# Altium integrated library Cypress PLD Delta39K.IntLib: 82 symbols (part 7 of 21)
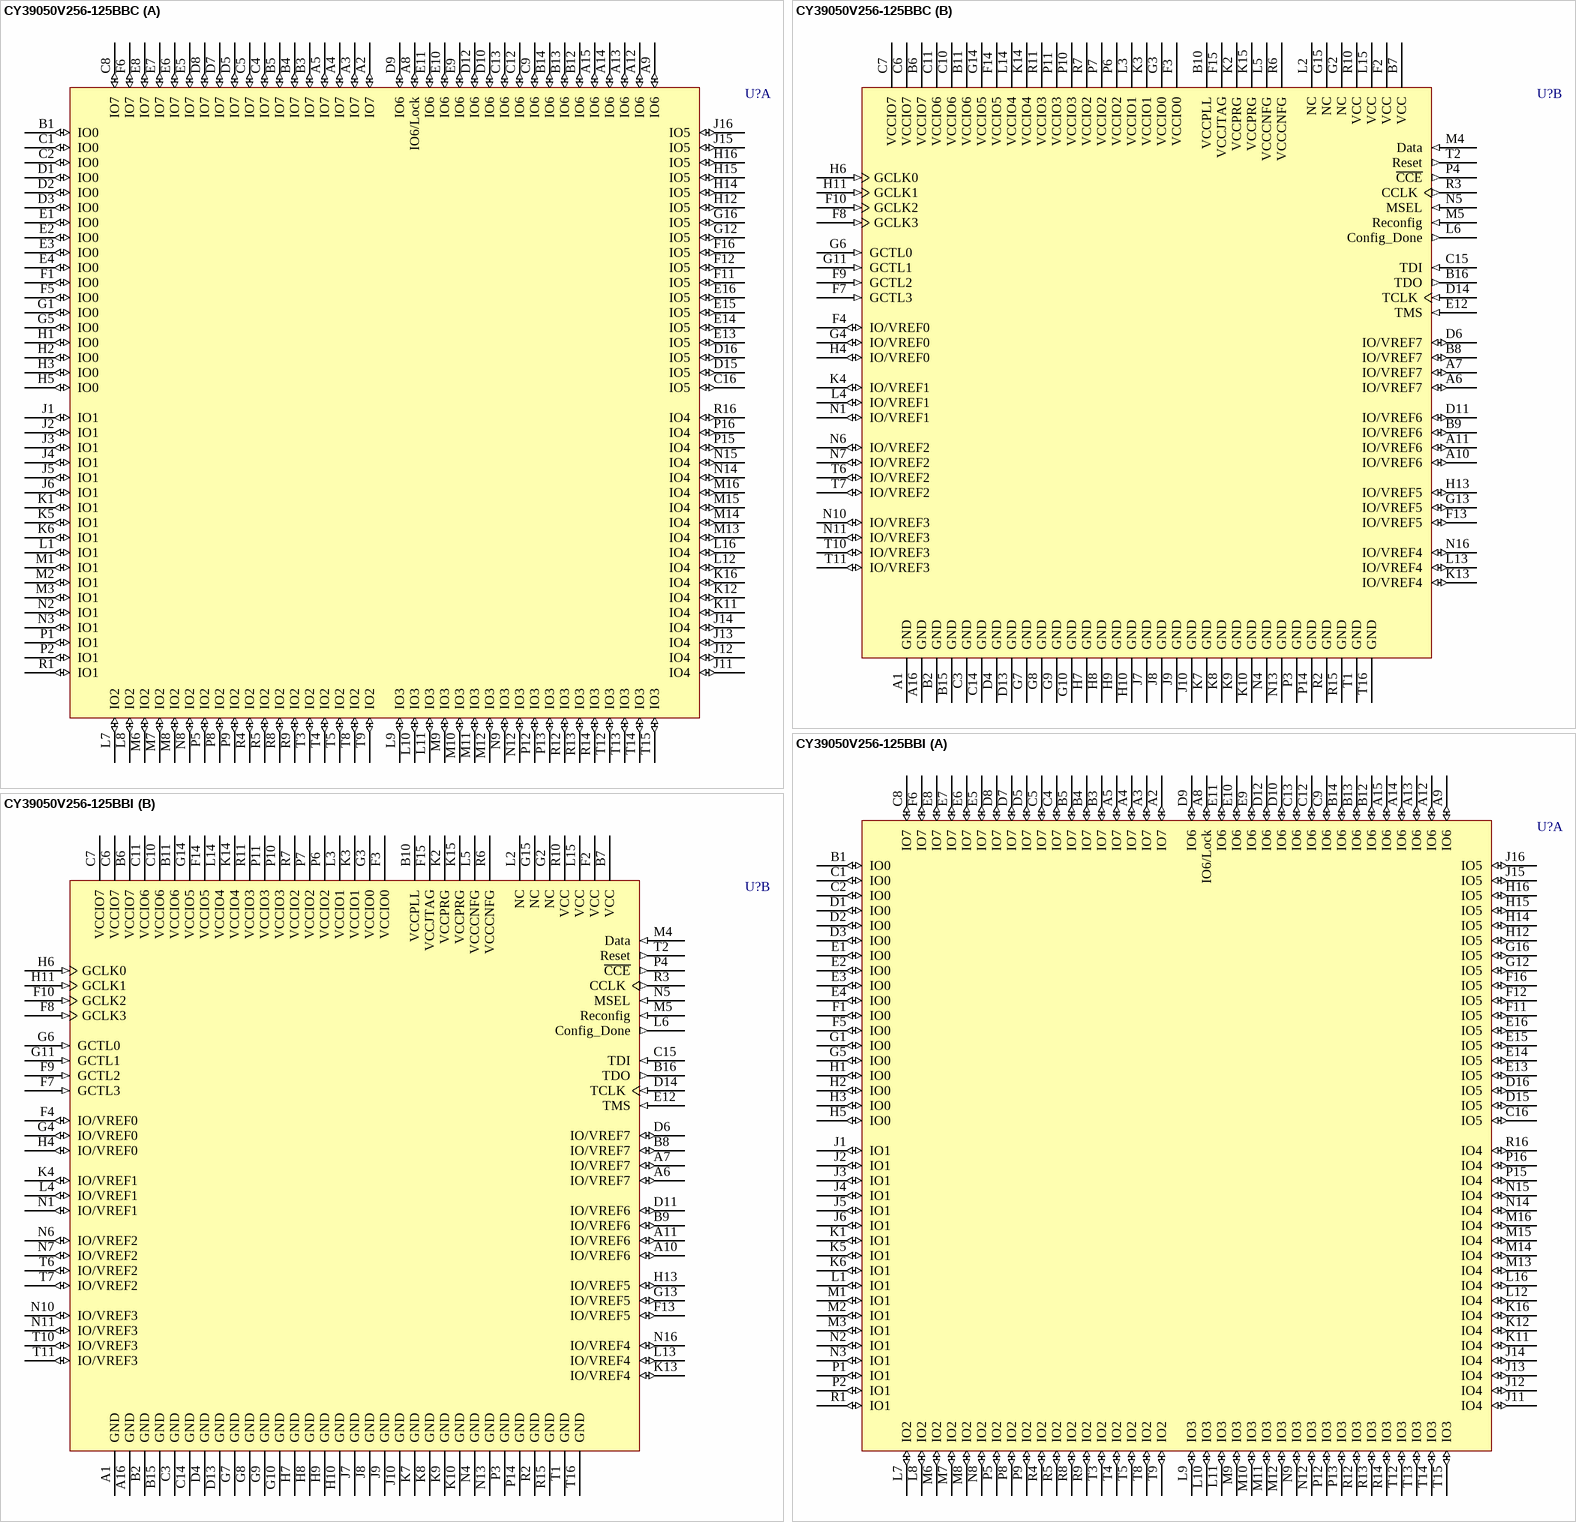
[diagram p84: symbols CY39050V256-125BBC to CY39050V256-125BBI]

## CY39050V256-125BBC
designator U?
Delta39K ISR CPLD, 3.3V/2.5V, 50K Gates, 125 MHz, 256-Ball FBGA, Commercial Grade; Published: 11-Dec-2002; LatestRevisionDate: 13-Apr-2006; LatestRevisionNote: IPC-7351 Footprint Added.; DatasheetVersion: revI, Mar-2005; PackageVersion: revF, Oct-2003; PackageReference: BB256; Publisher: Altium Limited; PackageDescription: 256-Ball Fine Pitch Ball Grid Array 1 mm Pitch (37K & 39K CPLD Devices); Code_JEDEC: MO-192; ComponentLink1Description: Manufacturer Link; ComponentLink1URL: http://www.cypress.com/; ComponentLink2Description: Datasheet; ComponentLink2URL: http://www.cypress.com/portal/server.pt/gateway/PTARGS_0_601270_1522_209_0_43/http%3B/sjapp20.mis.cypress.com%3B7001/publishedcontent/publish/design_resources/datasheets/contents/cy39030v_5.pdf
footprint BB256 (BGA, 256-Leads, Body 17x17mm, Pitch 1mm)
3D model CY39050V256-BB256 (256-Ball Fine Pitch Ball Grid Array 1 mm Pitch (37K & 39K CPLD Devices))
part A pins: A2 IO7 (io) "IO for Bank 7", A3 IO7 (io) "IO for Bank 7", A4 IO7 (io) "IO for Bank 7", A5 IO7 (io) "IO for Bank 7", A8 IO6/Lock (io) "IO in Bank 6 or PLL lock output signal", A9 IO6 (io) "IO for Bank 6", A12 IO6 (io) "IO for Bank 6", A13 IO6 (io) "IO for Bank 6", A14 IO6 (io) "IO for Bank 6", A15 IO6 (io) "IO for Bank 6", B1 IO0 (io) "IO for Bank 0", B3 IO7 (io) "IO for Bank 7", B4 IO7 (io) "IO for Bank 7", B5 IO7 (io) "IO for Bank 7", B12 IO6 (io) "IO for Bank 6", B13 IO6 (io) "IO for Bank 6", B14 IO6 (io) "IO for Bank 6", C1 IO0 (io) "IO for Bank 0", C2 IO0 (io) "IO for Bank 0", C4 IO7 (io) "IO for Bank 7", C5 IO7 (io) "IO for Bank 7", C8 IO7 (io) "IO for Bank 7", C9 IO6 (io) "IO for Bank 6", C12 IO6 (io) "IO for Bank 6", C13 IO6 (io) "IO for Bank 6", C16 IO5 (io) "IO for Bank 5", D1 IO0 (io) "IO for Bank 0", D2 IO0 (io) "IO for Bank 0", D3 IO0 (io) "IO for Bank 0", D5 IO7 (io) "IO for Bank 7", D7 IO7 (io) "IO for Bank 7", D8 IO7 (io) "IO for Bank 7", D9 IO6 (io) "IO for Bank 6", D10 IO6 (io) "IO for Bank 6", D12 IO6 (io) "IO for Bank 6", D15 IO5 (io) "IO for Bank 5", D16 IO5 (io) "IO for Bank 5", E1 IO0 (io) "IO for Bank 0", E2 IO0 (io) "IO for Bank 0", E3 IO0 (io) "IO for Bank 0", E4 IO0 (io) "IO for Bank 0", E5 IO7 (io) "IO for Bank 7", E6 IO7 (io) "IO for Bank 7", E7 IO7 (io) "IO for Bank 7", E8 IO7 (io) "IO for Bank 7", E9 IO6 (io) "IO for Bank 6", E10 IO6 (io) "IO for Bank 6", E11 IO6 (io) "IO for Bank 6", E13 IO5 (io) "IO for Bank 5", E14 IO5 (io) "IO for Bank 5", E15 IO5 (io) "IO for Bank 5", E16 IO5 (io) "IO for Bank 5", F1 IO0 (io) "IO for Bank 0", F5 IO0 (io) "IO for Bank 0", F6 IO7 (io) "IO for Bank 7", F11 IO5 (io) "IO for Bank 5", F12 IO5 (io) "IO for Bank 5", F16 IO5 (io) "IO for Bank 5", G1 IO0 (io) "IO for Bank 0", G5 IO0 (io) "IO for Bank 0", G12 IO5 (io) "IO for Bank 5", G16 IO5 (io) "IO for Bank 5", H1 IO0 (io) "IO for Bank 0", H2 IO0 (io) "IO for Bank 0", H3 IO0 (io) "IO for Bank 0", H5 IO0 (io) "IO for Bank 0", H12 IO5 (io) "IO for Bank 5", H14 IO5 (io) "IO for Bank 5", H15 IO5 (io) "IO for Bank 5", H16 IO5 (io) "IO for Bank 5", J1 IO1 (io) "IO for Bank 1", J2 IO1 (io) "IO for Bank 1", J3 IO1 (io) "IO for Bank 1", J4 IO1 (io) "IO for Bank 1", J5 IO1 (io) "IO for Bank 1", J6 IO1 (io) "IO for Bank 1", J11 IO4 (io) "IO for Bank 4", J12 IO4 (io) "IO for Bank 4", J13 IO4 (io) "IO for Bank 4", J14 IO4 (io) "IO for Bank 4", J15 IO5 (io) "IO for Bank 5", J16 IO5 (io) "IO for Bank 5", K1 IO1 (io) "IO for Bank 1", K5 IO1 (io) "IO for Bank 1", K6 IO1 (io) "IO for Bank 1", K11 IO4 (io) "IO for Bank 4", K12 IO4 (io) "IO for Bank 4", K16 IO4 (io) "IO for Bank 4", L1 IO1 (io) "IO for Bank 1", L7 IO2 (io) "IO for Bank 2", L8 IO2 (io) "IO for Bank 2", L9 IO3 (io) "IO for Bank 3", L10 IO3 (io) "IO for Bank 3", L11 IO3 (io) "IO for Bank 3", L12 IO4 (io) "IO for Bank 4", L16 IO4 (io) "IO for Bank 4", M1 IO1 (io) "IO for Bank 1", M2 IO1 (io) "IO for Bank 1", M3 IO1 (io) "IO for Bank 1", M6 IO2 (io) "IO for Bank 2", M7 IO2 (io) "IO for Bank 2", M8 IO2 (io) "IO for Bank 2", M9 IO3 (io) "IO for Bank 3", M10 IO3 (io) "IO for Bank 3", M11 IO3 (io) "IO for Bank 3", M12 IO3 (io) "IO for Bank 3", M13 IO4 (io) "IO for Bank 4", M14 IO4 (io) "IO for Bank 4", M15 IO4 (io) "IO for Bank 4", M16 IO4 (io) "IO for Bank 4", N2 IO1 (io) "IO for Bank 1", N3 IO1 (io) "IO for Bank 1", N8 IO2 (io) "IO for Bank 2", N9 IO3 (io) "IO for Bank 3", N12 IO3 (io) "IO for Bank 3", N14 IO4 (io) "IO for Bank 4", N15 IO4 (io) "IO for Bank 4", P1 IO1 (io) "IO for Bank 1", P2 IO1 (io) "IO for Bank 1", P5 IO2 (io) "IO for Bank 2", P8 IO2 (io) "IO for Bank 2", P9 IO2 (io) "IO for Bank 2", P12 IO3 (io) "IO for Bank 3", P13 IO3 (io) "IO for Bank 3", P15 IO4 (io) "IO for Bank 4", P16 IO4 (io) "IO for Bank 4", R1 IO1 (io) "IO for Bank 1", R4 IO2 (io) "IO for Bank 2", R5 IO2 (io) "IO for Bank 2", R8 IO2 (io) "IO for Bank 2", R9 IO2 (io) "IO for Bank 2", R12 IO3 (io) "IO for Bank 3", R13 IO3 (io) "IO for Bank 3", R14 IO3 (io) "IO for Bank 3", R16 IO4 (io) "IO for Bank 4", T3 IO2 (io) "IO for Bank 2", T4 IO2 (io) "IO for Bank 2", T5 IO2 (io) "IO for Bank 2", T8 IO2 (io) "IO for Bank 2", T9 IO2 (io) "IO for Bank 2", T12 IO3 (io) "IO for Bank 3", T13 IO3 (io) "IO for Bank 3", T14 IO3 (io) "IO for Bank 3", T15 IO3 (io) "IO for Bank 3"
part B pins: A1 GND (power) "Ground", A6 IO/VREF7 (io) "IO or Reference Voltage for Bank 7", A7 IO/VREF7 (io) "IO or Reference Voltage for Bank 7", A10 IO/VREF6 (io) "IO or Reference Voltage for Bank 6", A11 IO/VREF6 (io) "IO or Reference Voltage for Bank 6", A16 GND (power) "Ground", B2 GND (power) "Ground", B6 VCCIO7 (power) "VCC for I/O bank 7", B7 VCC (power) "Operating Voltage", B8 IO/VREF7 (io) "IO or Reference Voltage for Bank 7", B9 IO/VREF6 (io) "IO or Reference Voltage for Bank 6", B10 VCCPLL (power) "VCC for PLL", B11 VCCIO6 (power) "VCC for I/O bank 6", B15 GND (power) "Ground", B16 TDO (out) "JTAG Test Data Out", C3 GND (power) "Ground", C6 VCCIO7 (power) "VCC for I/O bank 7", C7 VCCIO7 (power) "VCC for I/O bank 7", C10 VCCIO6 (power) "VCC for I/O bank 6", C11 VCCIO6 (power) "VCC for I/O bank 6", C14 GND (power) "Ground", C15 TDI (in) "JTAG Test Data In", D4 GND (power) "Ground", D6 IO/VREF7 (io) "IO or Reference Voltage for Bank 7", D11 IO/VREF6 (io) "IO or Reference Voltage for Bank 6", D13 GND (power) "Ground", D14 TCLK (in) "JTAG Test Clock", E12 TMS (in) "JTAG Test Mode Select", F2 VCC (power) "Operating Voltage", F3 VCCIO0 (power) "VCC for I/O bank 0", F4 IO/VREF0 (io) "IO or Reference Voltage for Bank 0", F7 GCTL3 (in) "Global Control signal 3", F8 GCLK3 (in) "Global Clock signal 3", F9 GCTL2 (in) "Global Control signal 2", F10 GCLK2 (in) "Global Clock signal 2", F13 IO/VREF5 (io) "IO or Reference Voltage for Bank 5", F14 VCCIO5 (power) "VCC for I/O bank 5", F15 VCCJTAG (power) "VCC for JTAG pins", G2 NC "No Connection", G3 VCCIO0 (power) "VCC for I/O bank 0", G4 IO/VREF0 (io) "IO or Reference Voltage for Bank 0", G6 GCTL0 (in) "Global Control signal 0", G7 GND (power) "Ground", G8 GND (power) "Ground", G9 GND (power) "Ground", G10 GND (power) "Ground", G11 GCTL1 (in) "Global Control signal 1", G13 IO/VREF5 (io) "IO or Reference Voltage for Bank 5", G14 VCCIO5 (power) "VCC for I/O bank 5", G15 NC "No Connection", H4 IO/VREF0 (io) "IO or Reference Voltage for Bank 0", H6 GCLK0 (in) "Global Clock signal 0", H7 GND (power) "Ground", H8 GND (power) "Ground", H9 GND (power) "Ground", H10 GND (power) "Ground", H11 GCLK1 (in) "Global Clock signal 1", H13 IO/VREF5 (io) "IO or Reference Voltage for Bank 5", J7 GND (power) "Ground", J8 GND (power) "Ground", J9 GND (power) "Ground", J10 GND (power) "Ground", K2 VCCPRG (power) "VCC for programming Self-Boot solution embedded boot PROM", K3 VCCIO1 (power) "VCC for I/O bank 1", K4 IO/VREF1 (io) "IO or Reference Voltage for Bank 1", K7 GND (power) "Ground", K8 GND (power) "Ground", K9 GND (power) "Ground", K10 GND (power) "Ground", K13 IO/VREF4 (io) "IO or Reference Voltage for Bank 4", K14 VCCIO4 (power) "VCC for I/O bank 4", K15 VCCPRG (power) "VCC for programming Self-Boot solution embedded boot PROM", L2 NC "No Connection", L3 VCCIO1 (power) "VCC for I/O bank 1", L4 IO/VREF1 (io) "IO or Reference Voltage for Bank 1", L5 VCCCNFG (power) "VCC for Configuration port", L6 Config_Done (out) "Flag indicating that configuration is complete", L13 IO/VREF4 (io) "IO or Reference Voltage for Bank 4", L14 VCCIO4 (power) "VCC for I/O bank 4", L15 VCC (power) "Operating Voltage", M4 Data (in) "Pin to receive configuration data from the external boot PROM", M5 Reconfig (in) "Pin to start configuration of Delta39K", N1 IO/VREF1 (io) "IO or Reference Voltage for Bank 1", N4 GND (power) "Ground", N5 MSEL (in) "Mode Select Pin", N6 IO/VREF2 (io) "IO or Reference Voltage for Bank 2", N7 IO/VREF2 (io) "IO or Reference Voltage for Bank 2", N10 IO/VREF3 (io) "IO or Reference Voltage for Bank 3", N11 IO/VREF3 (io) "IO or Reference Voltage for Bank 3", N13 GND (power) "Ground", N16 IO/VREF4 (io) "IO or Reference Voltage for Bank 4", P3 GND (power) "Ground", P4 ~{CCE} (out) "Chip select for the external boot PROM (active low)", P6 VCCIO2 (power) "VCC for I/O bank 2", P7 VCCIO2 (power) "VCC for I/O bank 2", P10 VCCIO3 (power) "VCC for I/O bank 3", P11 VCCIO3 (power) "VCC for I/O bank 3", P14 GND (power) "Ground", R2 GND (power) "Ground", R3 CCLK (out) "Configuration Clock for serial interface with the external boot PROM", R6 VCCCNFG (power) "VCC for Configuration port", R7 VCCIO2 (power) "VCC for I/O bank 2", R10 VCC (power) "Operating Voltage", R11 VCCIO3 (power) "VCC for I/O bank 3", R15 GND (power) "Ground", T1 GND (power) "Ground", T2 Reset (out) "Reset signal to interface with the external boot PROM", T6 IO/VREF2 (io) "IO or Reference Voltage for Bank 2", T7 IO/VREF2 (io) "IO or Reference Voltage for Bank 2", T10 IO/VREF3 (io) "IO or Reference Voltage for Bank 3", T11 IO/VREF3 (io) "IO or Reference Voltage for Bank 3", T16 GND (power) "Ground"

## CY39050V256-125BBI
designator U?
Delta39K ISR CPLD, 3.3V/2.5V, 50K Gates, 125 MHz, 256-Ball FBGA, Industrial Grade; ComponentAvailability: Obsolete; Published: 11-Dec-2002; LatestRevisionDate: 13-Apr-2006; LatestRevisionNote: IPC-7351 Footprint Added.; DatasheetVersion: revI, Mar-2005; PackageVersion: revF, Oct-2003; PackageReference: BB256; Publisher: Altium Limited; PackageDescription: 256-Ball Fine Pitch Ball Grid Array 1 mm Pitch (37K & 39K CPLD Devices); Code_JEDEC: MO-192; ComponentLink1Description: Manufacturer Link; ComponentLink1URL: http://www.cypress.com/; ComponentLink2Description: Datasheet; ComponentLink2URL: http://www.cypress.com/portal/server.pt/gateway/PTARGS_0_601270_1522_209_0_43/http%3B/sjapp20.mis.cypress.com%3B7001/publishedcontent/publish/design_resources/datasheets/contents/cy39030v_5.pdf
footprint BB256 (BGA, 256-Leads, Body 17x17mm, Pitch 1mm)
3D model CY39050V256-BB256 (256-Ball Fine Pitch Ball Grid Array 1 mm Pitch (37K & 39K CPLD Devices))
part A pins: A2 IO7 (io) "IO for Bank 7", A3 IO7 (io) "IO for Bank 7", A4 IO7 (io) "IO for Bank 7", A5 IO7 (io) "IO for Bank 7", A8 IO6/Lock (io) "IO in Bank 6 or PLL lock output signal", A9 IO6 (io) "IO for Bank 6", A12 IO6 (io) "IO for Bank 6", A13 IO6 (io) "IO for Bank 6", A14 IO6 (io) "IO for Bank 6", A15 IO6 (io) "IO for Bank 6", B1 IO0 (io) "IO for Bank 0", B3 IO7 (io) "IO for Bank 7", B4 IO7 (io) "IO for Bank 7", B5 IO7 (io) "IO for Bank 7", B12 IO6 (io) "IO for Bank 6", B13 IO6 (io) "IO for Bank 6", B14 IO6 (io) "IO for Bank 6", C1 IO0 (io) "IO for Bank 0", C2 IO0 (io) "IO for Bank 0", C4 IO7 (io) "IO for Bank 7", C5 IO7 (io) "IO for Bank 7", C8 IO7 (io) "IO for Bank 7", C9 IO6 (io) "IO for Bank 6", C12 IO6 (io) "IO for Bank 6", C13 IO6 (io) "IO for Bank 6", C16 IO5 (io) "IO for Bank 5", D1 IO0 (io) "IO for Bank 0", D2 IO0 (io) "IO for Bank 0", D3 IO0 (io) "IO for Bank 0", D5 IO7 (io) "IO for Bank 7", D7 IO7 (io) "IO for Bank 7", D8 IO7 (io) "IO for Bank 7", D9 IO6 (io) "IO for Bank 6", D10 IO6 (io) "IO for Bank 6", D12 IO6 (io) "IO for Bank 6", D15 IO5 (io) "IO for Bank 5", D16 IO5 (io) "IO for Bank 5", E1 IO0 (io) "IO for Bank 0", E2 IO0 (io) "IO for Bank 0", E3 IO0 (io) "IO for Bank 0", E4 IO0 (io) "IO for Bank 0", E5 IO7 (io) "IO for Bank 7", E6 IO7 (io) "IO for Bank 7", E7 IO7 (io) "IO for Bank 7", E8 IO7 (io) "IO for Bank 7", E9 IO6 (io) "IO for Bank 6", E10 IO6 (io) "IO for Bank 6", E11 IO6 (io) "IO for Bank 6", E13 IO5 (io) "IO for Bank 5", E14 IO5 (io) "IO for Bank 5", E15 IO5 (io) "IO for Bank 5", E16 IO5 (io) "IO for Bank 5", F1 IO0 (io) "IO for Bank 0", F5 IO0 (io) "IO for Bank 0", F6 IO7 (io) "IO for Bank 7", F11 IO5 (io) "IO for Bank 5", F12 IO5 (io) "IO for Bank 5", F16 IO5 (io) "IO for Bank 5", G1 IO0 (io) "IO for Bank 0", G5 IO0 (io) "IO for Bank 0", G12 IO5 (io) "IO for Bank 5", G16 IO5 (io) "IO for Bank 5", H1 IO0 (io) "IO for Bank 0", H2 IO0 (io) "IO for Bank 0", H3 IO0 (io) "IO for Bank 0", H5 IO0 (io) "IO for Bank 0", H12 IO5 (io) "IO for Bank 5", H14 IO5 (io) "IO for Bank 5", H15 IO5 (io) "IO for Bank 5", H16 IO5 (io) "IO for Bank 5", J1 IO1 (io) "IO for Bank 1", J2 IO1 (io) "IO for Bank 1", J3 IO1 (io) "IO for Bank 1", J4 IO1 (io) "IO for Bank 1", J5 IO1 (io) "IO for Bank 1", J6 IO1 (io) "IO for Bank 1", J11 IO4 (io) "IO for Bank 4", J12 IO4 (io) "IO for Bank 4", J13 IO4 (io) "IO for Bank 4", J14 IO4 (io) "IO for Bank 4", J15 IO5 (io) "IO for Bank 5", J16 IO5 (io) "IO for Bank 5", K1 IO1 (io) "IO for Bank 1", K5 IO1 (io) "IO for Bank 1", K6 IO1 (io) "IO for Bank 1", K11 IO4 (io) "IO for Bank 4", K12 IO4 (io) "IO for Bank 4", K16 IO4 (io) "IO for Bank 4", L1 IO1 (io) "IO for Bank 1", L7 IO2 (io) "IO for Bank 2", L8 IO2 (io) "IO for Bank 2", L9 IO3 (io) "IO for Bank 3", L10 IO3 (io) "IO for Bank 3", L11 IO3 (io) "IO for Bank 3", L12 IO4 (io) "IO for Bank 4", L16 IO4 (io) "IO for Bank 4", M1 IO1 (io) "IO for Bank 1", M2 IO1 (io) "IO for Bank 1", M3 IO1 (io) "IO for Bank 1", M6 IO2 (io) "IO for Bank 2", M7 IO2 (io) "IO for Bank 2", M8 IO2 (io) "IO for Bank 2", M9 IO3 (io) "IO for Bank 3", M10 IO3 (io) "IO for Bank 3", M11 IO3 (io) "IO for Bank 3", M12 IO3 (io) "IO for Bank 3", M13 IO4 (io) "IO for Bank 4", M14 IO4 (io) "IO for Bank 4", M15 IO4 (io) "IO for Bank 4", M16 IO4 (io) "IO for Bank 4", N2 IO1 (io) "IO for Bank 1", N3 IO1 (io) "IO for Bank 1", N8 IO2 (io) "IO for Bank 2", N9 IO3 (io) "IO for Bank 3", N12 IO3 (io) "IO for Bank 3", N14 IO4 (io) "IO for Bank 4", N15 IO4 (io) "IO for Bank 4", P1 IO1 (io) "IO for Bank 1", P2 IO1 (io) "IO for Bank 1", P5 IO2 (io) "IO for Bank 2", P8 IO2 (io) "IO for Bank 2", P9 IO2 (io) "IO for Bank 2", P12 IO3 (io) "IO for Bank 3", P13 IO3 (io) "IO for Bank 3", P15 IO4 (io) "IO for Bank 4", P16 IO4 (io) "IO for Bank 4", R1 IO1 (io) "IO for Bank 1", R4 IO2 (io) "IO for Bank 2", R5 IO2 (io) "IO for Bank 2", R8 IO2 (io) "IO for Bank 2", R9 IO2 (io) "IO for Bank 2", R12 IO3 (io) "IO for Bank 3", R13 IO3 (io) "IO for Bank 3", R14 IO3 (io) "IO for Bank 3", R16 IO4 (io) "IO for Bank 4", T3 IO2 (io) "IO for Bank 2", T4 IO2 (io) "IO for Bank 2", T5 IO2 (io) "IO for Bank 2", T8 IO2 (io) "IO for Bank 2", T9 IO2 (io) "IO for Bank 2", T12 IO3 (io) "IO for Bank 3", T13 IO3 (io) "IO for Bank 3", T14 IO3 (io) "IO for Bank 3", T15 IO3 (io) "IO for Bank 3"
part B pins: A1 GND (power) "Ground", A6 IO/VREF7 (io) "IO or Reference Voltage for Bank 7", A7 IO/VREF7 (io) "IO or Reference Voltage for Bank 7", A10 IO/VREF6 (io) "IO or Reference Voltage for Bank 6", A11 IO/VREF6 (io) "IO or Reference Voltage for Bank 6", A16 GND (power) "Ground", B2 GND (power) "Ground", B6 VCCIO7 (power) "VCC for I/O bank 7", B7 VCC (power) "Operating Voltage", B8 IO/VREF7 (io) "IO or Reference Voltage for Bank 7", B9 IO/VREF6 (io) "IO or Reference Voltage for Bank 6", B10 VCCPLL (power) "VCC for PLL", B11 VCCIO6 (power) "VCC for I/O bank 6", B15 GND (power) "Ground", B16 TDO (out) "JTAG Test Data Out", C3 GND (power) "Ground", C6 VCCIO7 (power) "VCC for I/O bank 7", C7 VCCIO7 (power) "VCC for I/O bank 7", C10 VCCIO6 (power) "VCC for I/O bank 6", C11 VCCIO6 (power) "VCC for I/O bank 6", C14 GND (power) "Ground", C15 TDI (in) "JTAG Test Data In", D4 GND (power) "Ground", D6 IO/VREF7 (io) "IO or Reference Voltage for Bank 7", D11 IO/VREF6 (io) "IO or Reference Voltage for Bank 6", D13 GND (power) "Ground", D14 TCLK (in) "JTAG Test Clock", E12 TMS (in) "JTAG Test Mode Select", F2 VCC (power) "Operating Voltage", F3 VCCIO0 (power) "VCC for I/O bank 0", F4 IO/VREF0 (io) "IO or Reference Voltage for Bank 0", F7 GCTL3 (in) "Global Control signal 3", F8 GCLK3 (in) "Global Clock signal 3", F9 GCTL2 (in) "Global Control signal 2", F10 GCLK2 (in) "Global Clock signal 2", F13 IO/VREF5 (io) "IO or Reference Voltage for Bank 5", F14 VCCIO5 (power) "VCC for I/O bank 5", F15 VCCJTAG (power) "VCC for JTAG pins", G2 NC "No Connection", G3 VCCIO0 (power) "VCC for I/O bank 0", G4 IO/VREF0 (io) "IO or Reference Voltage for Bank 0", G6 GCTL0 (in) "Global Control signal 0", G7 GND (power) "Ground", G8 GND (power) "Ground", G9 GND (power) "Ground", G10 GND (power) "Ground", G11 GCTL1 (in) "Global Control signal 1", G13 IO/VREF5 (io) "IO or Reference Voltage for Bank 5", G14 VCCIO5 (power) "VCC for I/O bank 5", G15 NC "No Connection", H4 IO/VREF0 (io) "IO or Reference Voltage for Bank 0", H6 GCLK0 (in) "Global Clock signal 0", H7 GND (power) "Ground", H8 GND (power) "Ground", H9 GND (power) "Ground", H10 GND (power) "Ground", H11 GCLK1 (in) "Global Clock signal 1", H13 IO/VREF5 (io) "IO or Reference Voltage for Bank 5", J7 GND (power) "Ground", J8 GND (power) "Ground", J9 GND (power) "Ground", J10 GND (power) "Ground", K2 VCCPRG (power) "VCC for programming Self-Boot solution embedded boot PROM", K3 VCCIO1 (power) "VCC for I/O bank 1", K4 IO/VREF1 (io) "IO or Reference Voltage for Bank 1", K7 GND (power) "Ground", K8 GND (power) "Ground", K9 GND (power) "Ground", K10 GND (power) "Ground", K13 IO/VREF4 (io) "IO or Reference Voltage for Bank 4", K14 VCCIO4 (power) "VCC for I/O bank 4", K15 VCCPRG (power) "VCC for programming Self-Boot solution embedded boot PROM", L2 NC "No Connection", L3 VCCIO1 (power) "VCC for I/O bank 1", L4 IO/VREF1 (io) "IO or Reference Voltage for Bank 1", L5 VCCCNFG (power) "VCC for Configuration port", L6 Config_Done (out) "Flag indicating that configuration is complete", L13 IO/VREF4 (io) "IO or Reference Voltage for Bank 4", L14 VCCIO4 (power) "VCC for I/O bank 4", L15 VCC (power) "Operating Voltage", M4 Data (in) "Pin to receive configuration data from the external boot PROM", M5 Reconfig (in) "Pin to start configuration of Delta39K", N1 IO/VREF1 (io) "IO or Reference Voltage for Bank 1", N4 GND (power) "Ground", N5 MSEL (in) "Mode Select Pin", N6 IO/VREF2 (io) "IO or Reference Voltage for Bank 2", N7 IO/VREF2 (io) "IO or Reference Voltage for Bank 2", N10 IO/VREF3 (io) "IO or Reference Voltage for Bank 3", N11 IO/VREF3 (io) "IO or Reference Voltage for Bank 3", N13 GND (power) "Ground", N16 IO/VREF4 (io) "IO or Reference Voltage for Bank 4", P3 GND (power) "Ground", P4 ~{CCE} (out) "Chip select for the external boot PROM (active low)", P6 VCCIO2 (power) "VCC for I/O bank 2", P7 VCCIO2 (power) "VCC for I/O bank 2", P10 VCCIO3 (power) "VCC for I/O bank 3", P11 VCCIO3 (power) "VCC for I/O bank 3", P14 GND (power) "Ground", R2 GND (power) "Ground", R3 CCLK (out) "Configuration Clock for serial interface with the external boot PROM", R6 VCCCNFG (power) "VCC for Configuration port", R7 VCCIO2 (power) "VCC for I/O bank 2", R10 VCC (power) "Operating Voltage", R11 VCCIO3 (power) "VCC for I/O bank 3", R15 GND (power) "Ground", T1 GND (power) "Ground", T2 Reset (out) "Reset signal to interface with the external boot PROM", T6 IO/VREF2 (io) "IO or Reference Voltage for Bank 2", T7 IO/VREF2 (io) "IO or Reference Voltage for Bank 2", T10 IO/VREF3 (io) "IO or Reference Voltage for Bank 3", T11 IO/VREF3 (io) "IO or Reference Voltage for Bank 3", T16 GND (power) "Ground"

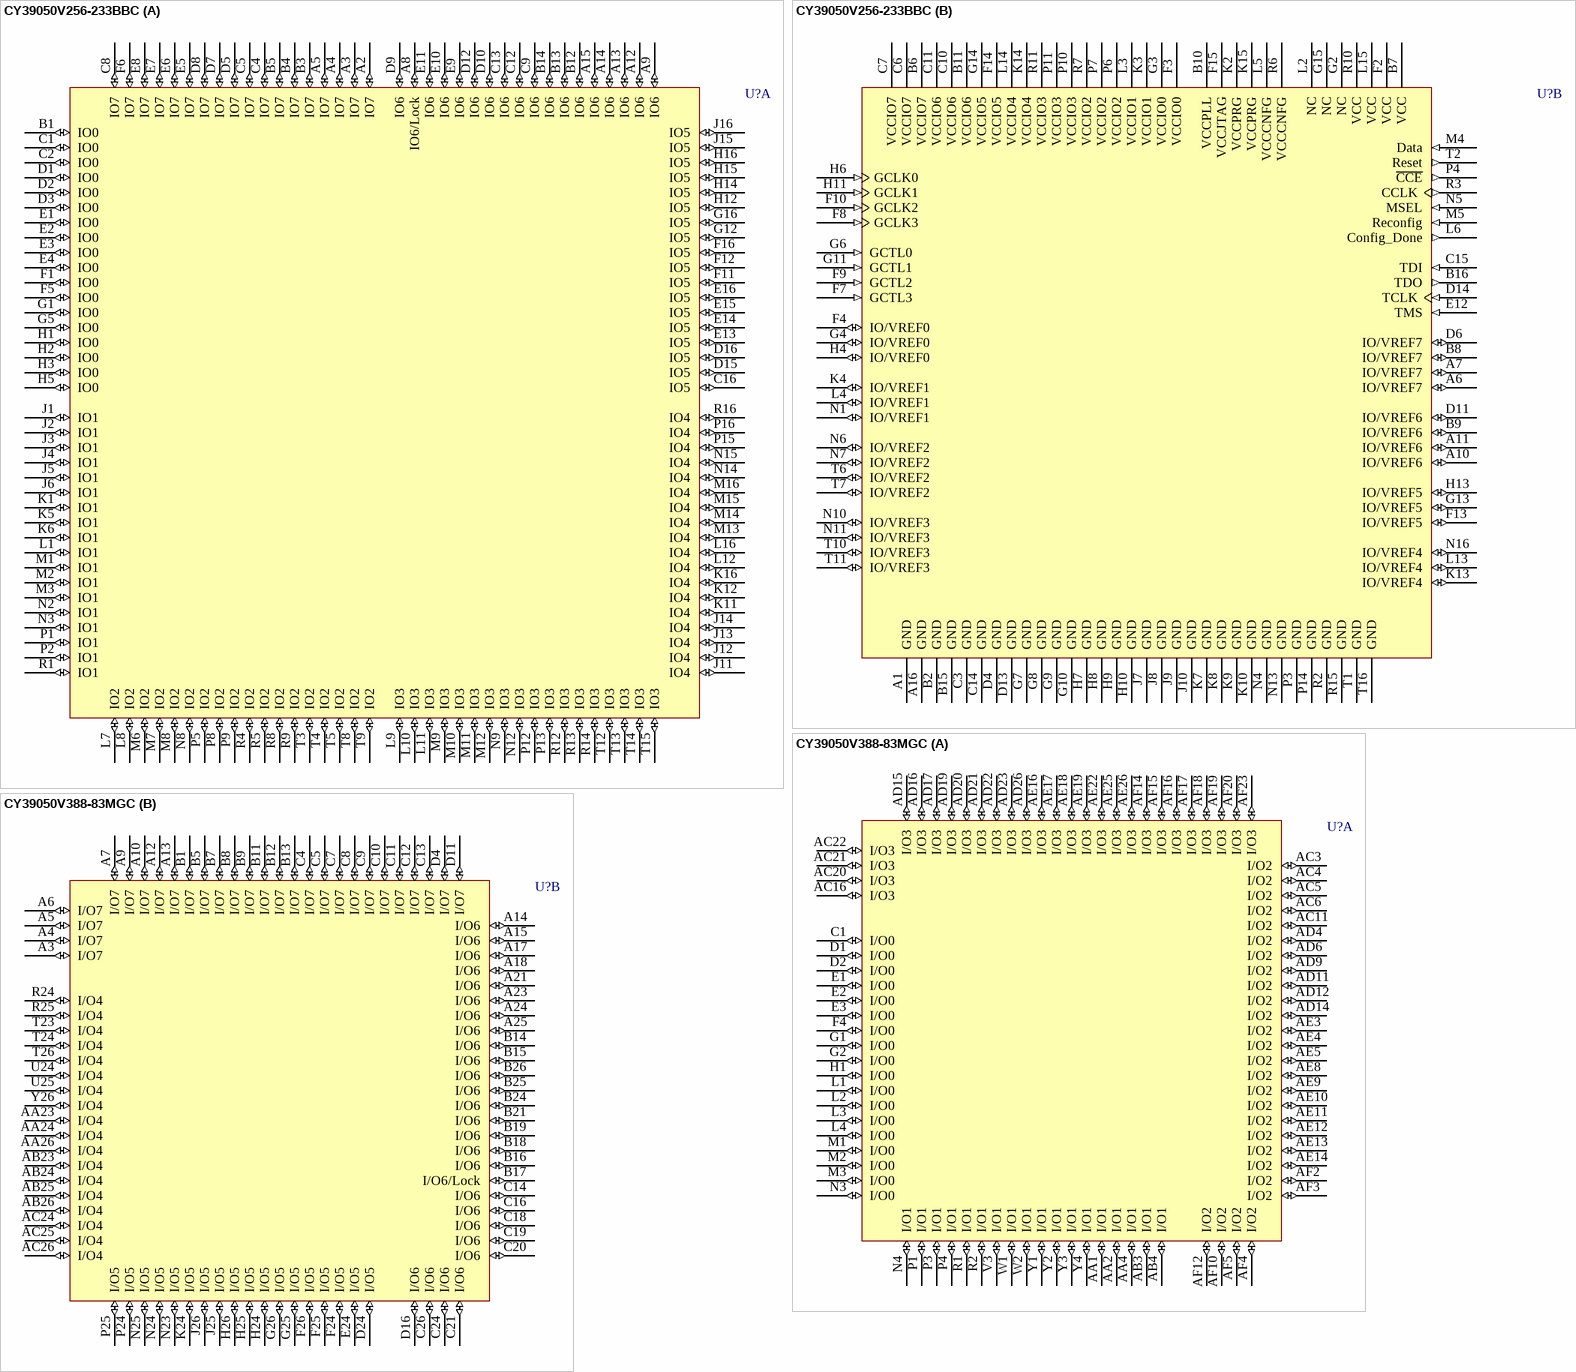
[diagram p16: symbols CY39050V256-233BBC to CY39050V388-83MGC]

## CY39050V256-233BBC
designator U?
Delta39K ISR CPLD, 3.3V/2.5V, 50K Gates, 233 MHz, 256-Ball FBGA, Commercial Grade; ComponentAvailability: Obsolete; Published: 11-Dec-2002; LatestRevisionDate: 13-Apr-2006; LatestRevisionNote: IPC-7351 Footprint Added.; DatasheetVersion: revI, Mar-2005; PackageVersion: revF, Oct-2003; PackageReference: BB256; Publisher: Altium Limited; PackageDescription: 256-Ball Fine Pitch Ball Grid Array 1 mm Pitch (37K & 39K CPLD Devices); Code_JEDEC: MO-192; ComponentLink1Description: Manufacturer Link; ComponentLink1URL: http://www.cypress.com/; ComponentLink2Description: Datasheet; ComponentLink2URL: http://www.cypress.com/portal/server.pt/gateway/PTARGS_0_601270_1522_209_0_43/http%3B/sjapp20.mis.cypress.com%3B7001/publishedcontent/publish/design_resources/datasheets/contents/cy39030v_5.pdf
footprint BB256 (BGA, 256-Leads, Body 17x17mm, Pitch 1mm)
3D model CY39050V256-BB256 (256-Ball Fine Pitch Ball Grid Array 1 mm Pitch (37K & 39K CPLD Devices))
part A pins: A2 IO7 (io) "IO for Bank 7", A3 IO7 (io) "IO for Bank 7", A4 IO7 (io) "IO for Bank 7", A5 IO7 (io) "IO for Bank 7", A8 IO6/Lock (io) "IO in Bank 6 or PLL lock output signal", A9 IO6 (io) "IO for Bank 6", A12 IO6 (io) "IO for Bank 6", A13 IO6 (io) "IO for Bank 6", A14 IO6 (io) "IO for Bank 6", A15 IO6 (io) "IO for Bank 6", B1 IO0 (io) "IO for Bank 0", B3 IO7 (io) "IO for Bank 7", B4 IO7 (io) "IO for Bank 7", B5 IO7 (io) "IO for Bank 7", B12 IO6 (io) "IO for Bank 6", B13 IO6 (io) "IO for Bank 6", B14 IO6 (io) "IO for Bank 6", C1 IO0 (io) "IO for Bank 0", C2 IO0 (io) "IO for Bank 0", C4 IO7 (io) "IO for Bank 7", C5 IO7 (io) "IO for Bank 7", C8 IO7 (io) "IO for Bank 7", C9 IO6 (io) "IO for Bank 6", C12 IO6 (io) "IO for Bank 6", C13 IO6 (io) "IO for Bank 6", C16 IO5 (io) "IO for Bank 5", D1 IO0 (io) "IO for Bank 0", D2 IO0 (io) "IO for Bank 0", D3 IO0 (io) "IO for Bank 0", D5 IO7 (io) "IO for Bank 7", D7 IO7 (io) "IO for Bank 7", D8 IO7 (io) "IO for Bank 7", D9 IO6 (io) "IO for Bank 6", D10 IO6 (io) "IO for Bank 6", D12 IO6 (io) "IO for Bank 6", D15 IO5 (io) "IO for Bank 5", D16 IO5 (io) "IO for Bank 5", E1 IO0 (io) "IO for Bank 0", E2 IO0 (io) "IO for Bank 0", E3 IO0 (io) "IO for Bank 0", E4 IO0 (io) "IO for Bank 0", E5 IO7 (io) "IO for Bank 7", E6 IO7 (io) "IO for Bank 7", E7 IO7 (io) "IO for Bank 7", E8 IO7 (io) "IO for Bank 7", E9 IO6 (io) "IO for Bank 6", E10 IO6 (io) "IO for Bank 6", E11 IO6 (io) "IO for Bank 6", E13 IO5 (io) "IO for Bank 5", E14 IO5 (io) "IO for Bank 5", E15 IO5 (io) "IO for Bank 5", E16 IO5 (io) "IO for Bank 5", F1 IO0 (io) "IO for Bank 0", F5 IO0 (io) "IO for Bank 0", F6 IO7 (io) "IO for Bank 7", F11 IO5 (io) "IO for Bank 5", F12 IO5 (io) "IO for Bank 5", F16 IO5 (io) "IO for Bank 5", G1 IO0 (io) "IO for Bank 0", G5 IO0 (io) "IO for Bank 0", G12 IO5 (io) "IO for Bank 5", G16 IO5 (io) "IO for Bank 5", H1 IO0 (io) "IO for Bank 0", H2 IO0 (io) "IO for Bank 0", H3 IO0 (io) "IO for Bank 0", H5 IO0 (io) "IO for Bank 0", H12 IO5 (io) "IO for Bank 5", H14 IO5 (io) "IO for Bank 5", H15 IO5 (io) "IO for Bank 5", H16 IO5 (io) "IO for Bank 5", J1 IO1 (io) "IO for Bank 1", J2 IO1 (io) "IO for Bank 1", J3 IO1 (io) "IO for Bank 1", J4 IO1 (io) "IO for Bank 1", J5 IO1 (io) "IO for Bank 1", J6 IO1 (io) "IO for Bank 1", J11 IO4 (io) "IO for Bank 4", J12 IO4 (io) "IO for Bank 4", J13 IO4 (io) "IO for Bank 4", J14 IO4 (io) "IO for Bank 4", J15 IO5 (io) "IO for Bank 5", J16 IO5 (io) "IO for Bank 5", K1 IO1 (io) "IO for Bank 1", K5 IO1 (io) "IO for Bank 1", K6 IO1 (io) "IO for Bank 1", K11 IO4 (io) "IO for Bank 4", K12 IO4 (io) "IO for Bank 4", K16 IO4 (io) "IO for Bank 4", L1 IO1 (io) "IO for Bank 1", L7 IO2 (io) "IO for Bank 2", L8 IO2 (io) "IO for Bank 2", L9 IO3 (io) "IO for Bank 3", L10 IO3 (io) "IO for Bank 3", L11 IO3 (io) "IO for Bank 3", L12 IO4 (io) "IO for Bank 4", L16 IO4 (io) "IO for Bank 4", M1 IO1 (io) "IO for Bank 1", M2 IO1 (io) "IO for Bank 1", M3 IO1 (io) "IO for Bank 1", M6 IO2 (io) "IO for Bank 2", M7 IO2 (io) "IO for Bank 2", M8 IO2 (io) "IO for Bank 2", M9 IO3 (io) "IO for Bank 3", M10 IO3 (io) "IO for Bank 3", M11 IO3 (io) "IO for Bank 3", M12 IO3 (io) "IO for Bank 3", M13 IO4 (io) "IO for Bank 4", M14 IO4 (io) "IO for Bank 4", M15 IO4 (io) "IO for Bank 4", M16 IO4 (io) "IO for Bank 4", N2 IO1 (io) "IO for Bank 1", N3 IO1 (io) "IO for Bank 1", N8 IO2 (io) "IO for Bank 2", N9 IO3 (io) "IO for Bank 3", N12 IO3 (io) "IO for Bank 3", N14 IO4 (io) "IO for Bank 4", N15 IO4 (io) "IO for Bank 4", P1 IO1 (io) "IO for Bank 1", P2 IO1 (io) "IO for Bank 1", P5 IO2 (io) "IO for Bank 2", P8 IO2 (io) "IO for Bank 2", P9 IO2 (io) "IO for Bank 2", P12 IO3 (io) "IO for Bank 3", P13 IO3 (io) "IO for Bank 3", P15 IO4 (io) "IO for Bank 4", P16 IO4 (io) "IO for Bank 4", R1 IO1 (io) "IO for Bank 1", R4 IO2 (io) "IO for Bank 2", R5 IO2 (io) "IO for Bank 2", R8 IO2 (io) "IO for Bank 2", R9 IO2 (io) "IO for Bank 2", R12 IO3 (io) "IO for Bank 3", R13 IO3 (io) "IO for Bank 3", R14 IO3 (io) "IO for Bank 3", R16 IO4 (io) "IO for Bank 4", T3 IO2 (io) "IO for Bank 2", T4 IO2 (io) "IO for Bank 2", T5 IO2 (io) "IO for Bank 2", T8 IO2 (io) "IO for Bank 2", T9 IO2 (io) "IO for Bank 2", T12 IO3 (io) "IO for Bank 3", T13 IO3 (io) "IO for Bank 3", T14 IO3 (io) "IO for Bank 3", T15 IO3 (io) "IO for Bank 3"
part B pins: A1 GND (power) "Ground", A6 IO/VREF7 (io) "IO or Reference Voltage for Bank 7", A7 IO/VREF7 (io) "IO or Reference Voltage for Bank 7", A10 IO/VREF6 (io) "IO or Reference Voltage for Bank 6", A11 IO/VREF6 (io) "IO or Reference Voltage for Bank 6", A16 GND (power) "Ground", B2 GND (power) "Ground", B6 VCCIO7 (power) "VCC for I/O bank 7", B7 VCC (power) "Operating Voltage", B8 IO/VREF7 (io) "IO or Reference Voltage for Bank 7", B9 IO/VREF6 (io) "IO or Reference Voltage for Bank 6", B10 VCCPLL (power) "VCC for PLL", B11 VCCIO6 (power) "VCC for I/O bank 6", B15 GND (power) "Ground", B16 TDO (out) "JTAG Test Data Out", C3 GND (power) "Ground", C6 VCCIO7 (power) "VCC for I/O bank 7", C7 VCCIO7 (power) "VCC for I/O bank 7", C10 VCCIO6 (power) "VCC for I/O bank 6", C11 VCCIO6 (power) "VCC for I/O bank 6", C14 GND (power) "Ground", C15 TDI (in) "JTAG Test Data In", D4 GND (power) "Ground", D6 IO/VREF7 (io) "IO or Reference Voltage for Bank 7", D11 IO/VREF6 (io) "IO or Reference Voltage for Bank 6", D13 GND (power) "Ground", D14 TCLK (in) "JTAG Test Clock", E12 TMS (in) "JTAG Test Mode Select", F2 VCC (power) "Operating Voltage", F3 VCCIO0 (power) "VCC for I/O bank 0", F4 IO/VREF0 (io) "IO or Reference Voltage for Bank 0", F7 GCTL3 (in) "Global Control signal 3", F8 GCLK3 (in) "Global Clock signal 3", F9 GCTL2 (in) "Global Control signal 2", F10 GCLK2 (in) "Global Clock signal 2", F13 IO/VREF5 (io) "IO or Reference Voltage for Bank 5", F14 VCCIO5 (power) "VCC for I/O bank 5", F15 VCCJTAG (power) "VCC for JTAG pins", G2 NC "No Connection", G3 VCCIO0 (power) "VCC for I/O bank 0", G4 IO/VREF0 (io) "IO or Reference Voltage for Bank 0", G6 GCTL0 (in) "Global Control signal 0", G7 GND (power) "Ground", G8 GND (power) "Ground", G9 GND (power) "Ground", G10 GND (power) "Ground", G11 GCTL1 (in) "Global Control signal 1", G13 IO/VREF5 (io) "IO or Reference Voltage for Bank 5", G14 VCCIO5 (power) "VCC for I/O bank 5", G15 NC "No Connection", H4 IO/VREF0 (io) "IO or Reference Voltage for Bank 0", H6 GCLK0 (in) "Global Clock signal 0", H7 GND (power) "Ground", H8 GND (power) "Ground", H9 GND (power) "Ground", H10 GND (power) "Ground", H11 GCLK1 (in) "Global Clock signal 1", H13 IO/VREF5 (io) "IO or Reference Voltage for Bank 5", J7 GND (power) "Ground", J8 GND (power) "Ground", J9 GND (power) "Ground", J10 GND (power) "Ground", K2 VCCPRG (power) "VCC for programming Self-Boot solution embedded boot PROM", K3 VCCIO1 (power) "VCC for I/O bank 1", K4 IO/VREF1 (io) "IO or Reference Voltage for Bank 1", K7 GND (power) "Ground", K8 GND (power) "Ground", K9 GND (power) "Ground", K10 GND (power) "Ground", K13 IO/VREF4 (io) "IO or Reference Voltage for Bank 4", K14 VCCIO4 (power) "VCC for I/O bank 4", K15 VCCPRG (power) "VCC for programming Self-Boot solution embedded boot PROM", L2 NC "No Connection", L3 VCCIO1 (power) "VCC for I/O bank 1", L4 IO/VREF1 (io) "IO or Reference Voltage for Bank 1", L5 VCCCNFG (power) "VCC for Configuration port", L6 Config_Done (out) "Flag indicating that configuration is complete", L13 IO/VREF4 (io) "IO or Reference Voltage for Bank 4", L14 VCCIO4 (power) "VCC for I/O bank 4", L15 VCC (power) "Operating Voltage", M4 Data (in) "Pin to receive configuration data from the external boot PROM", M5 Reconfig (in) "Pin to start configuration of Delta39K", N1 IO/VREF1 (io) "IO or Reference Voltage for Bank 1", N4 GND (power) "Ground", N5 MSEL (in) "Mode Select Pin", N6 IO/VREF2 (io) "IO or Reference Voltage for Bank 2", N7 IO/VREF2 (io) "IO or Reference Voltage for Bank 2", N10 IO/VREF3 (io) "IO or Reference Voltage for Bank 3", N11 IO/VREF3 (io) "IO or Reference Voltage for Bank 3", N13 GND (power) "Ground", N16 IO/VREF4 (io) "IO or Reference Voltage for Bank 4", P3 GND (power) "Ground", P4 ~{CCE} (out) "Chip select for the external boot PROM (active low)", P6 VCCIO2 (power) "VCC for I/O bank 2", P7 VCCIO2 (power) "VCC for I/O bank 2", P10 VCCIO3 (power) "VCC for I/O bank 3", P11 VCCIO3 (power) "VCC for I/O bank 3", P14 GND (power) "Ground", R2 GND (power) "Ground", R3 CCLK (out) "Configuration Clock for serial interface with the external boot PROM", R6 VCCCNFG (power) "VCC for Configuration port", R7 VCCIO2 (power) "VCC for I/O bank 2", R10 VCC (power) "Operating Voltage", R11 VCCIO3 (power) "VCC for I/O bank 3", R15 GND (power) "Ground", T1 GND (power) "Ground", T2 Reset (out) "Reset signal to interface with the external boot PROM", T6 IO/VREF2 (io) "IO or Reference Voltage for Bank 2", T7 IO/VREF2 (io) "IO or Reference Voltage for Bank 2", T10 IO/VREF3 (io) "IO or Reference Voltage for Bank 3", T11 IO/VREF3 (io) "IO or Reference Voltage for Bank 3", T16 GND (power) "Ground"

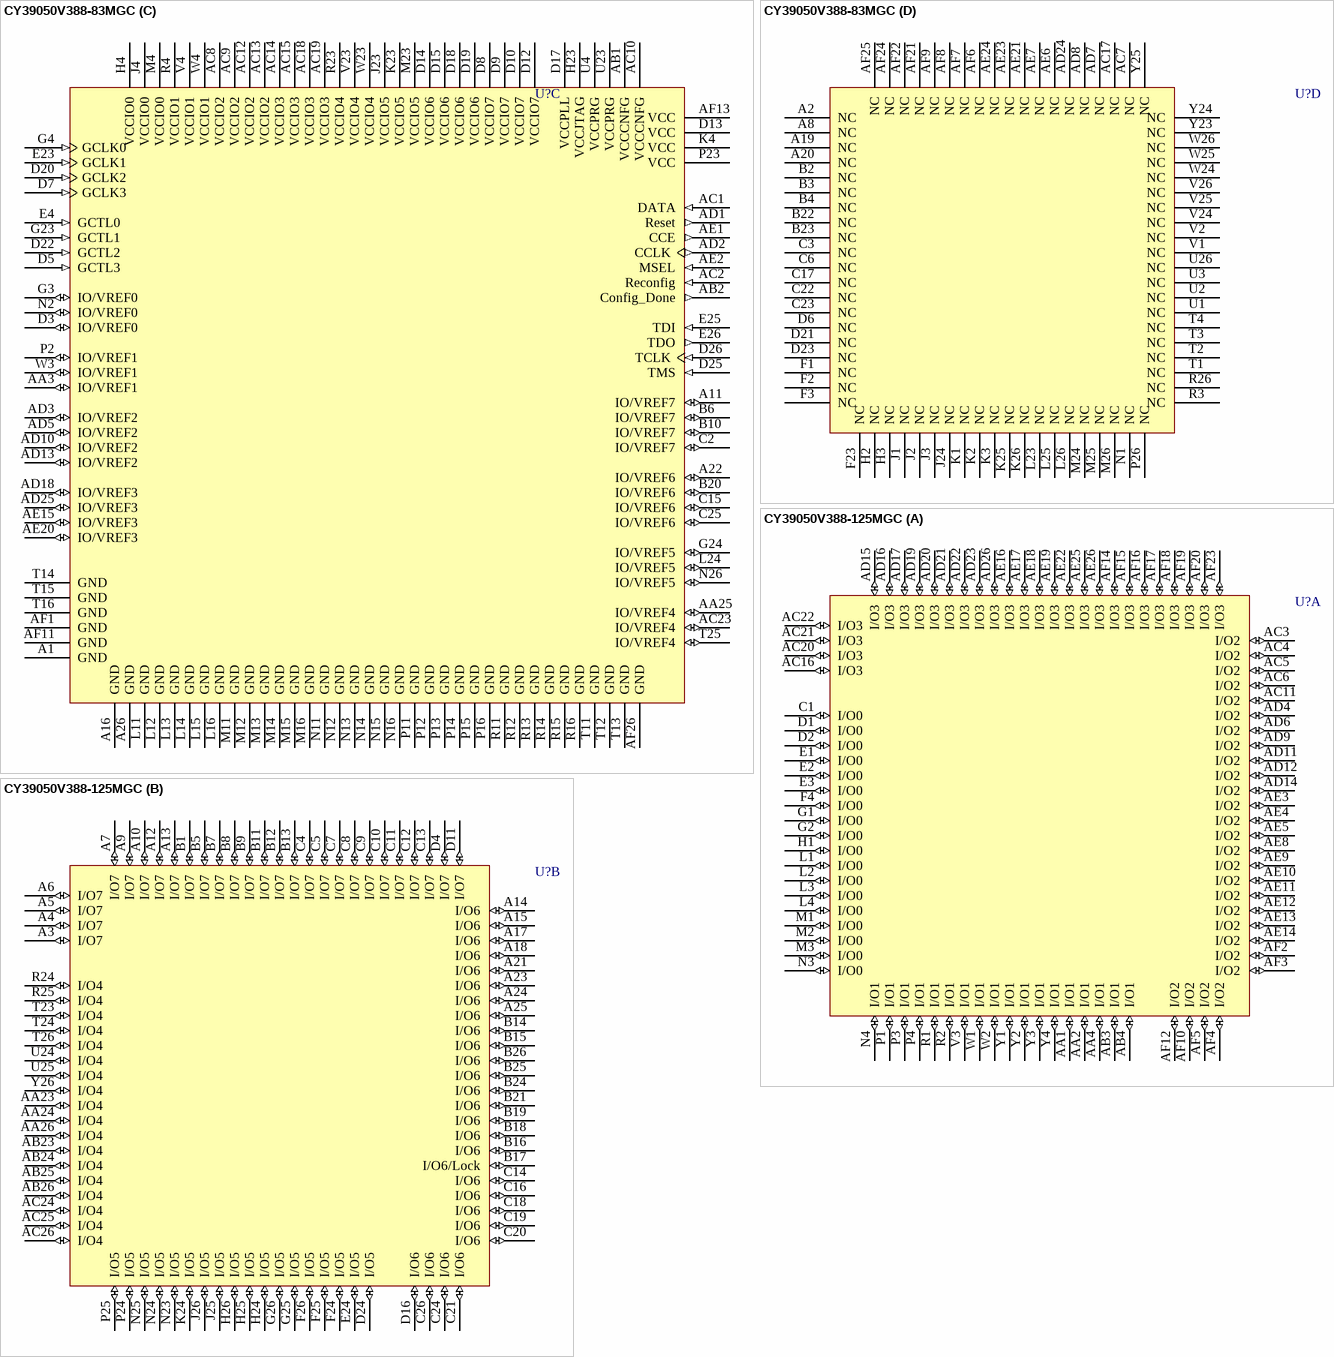
[diagram p17: symbols CY39050V388-83MGC to CY39050V388-125MGC]

## CY39050V388-83MGC
designator U?
Delta39K ISR CPLD, 3.3V/2.5V, 50K Gates, 83 MHz, 388-Ball BGA, Commercial Grade; ComponentAvailability: Obsolete; Published: 11-Dec-2002; LatestRevisionDate: 13-Apr-2006; LatestRevisionNote: IPC-7351 Footprint Added.; DatasheetVersion: revI, Mar-2005; PackageVersion: Mar-2005; PackageReference: MG388; Publisher: Altium Limited; PackageDescription: 388-Ball Ball Grid Array 1.27 mm Pitch; ComponentLink1Description: Manufacturer Link; ComponentLink1URL: http://www.cypress.com/; ComponentLink2Description: Datasheet; ComponentLink2URL: http://www.cypress.com/portal/server.pt/gateway/PTARGS_0_601270_1522_209_0_43/http%3B/sjapp20.mis.cypress.com%3B7001/publishedcontent/publish/design_resources/datasheets/contents/cy39030v_5.pdf
footprint MG388 (BGA, 388-Leads, Body 35x35mm, Pitch 1.27mm)
3D model CY39050V388-MG388 (388-Ball Ball Grid Array 1.27 mm Pitch)
part A pins: AA1 I/O1 (io), AA2 I/O1 (io), AA4 I/O1 (io), AB3 I/O1 (io), AB4 I/O1 (io), AC3 I/O2 (io), AC4 I/O2 (io), AC5 I/O2 (io), AC6 I/O2 (io), AC11 I/O2 (io), AC16 I/O3 (io), AC20 I/O3 (io), AC21 I/O3 (io), AC22 I/O3 (io), AD4 I/O2 (io), AD6 I/O2 (io), AD9 I/O2 (io), AD11 I/O2 (io), AD12 I/O2 (io), AD14 I/O2 (io), AD15 I/O3 (io), AD16 I/O3 (io), AD17 I/O3 (io), AD19 I/O3 (io), AD20 I/O3 (io), AD21 I/O3 (io), AD22 I/O3 (io), AD23 I/O3 (io), AD26 I/O3 (io), AE3 I/O2 (io), AE4 I/O2 (io), AE5 I/O2 (io), AE8 I/O2 (io), AE9 I/O2 (io), AE10 I/O2 (io), AE11 I/O2 (io), AE12 I/O2 (io), AE13 I/O2 (io), AE14 I/O2 (io), AE16 I/O3 (io), AE17 I/O3 (io), AE18 I/O3 (io), AE19 I/O3 (io), AE22 I/O3 (io), AE25 I/O3 (io), AE26 I/O3 (io), AF2 I/O2 (io), AF3 I/O2 (io), AF4 I/O2 (io), AF5 I/O2 (io), AF10 I/O2 (io), AF12 I/O2 (io), AF14 I/O3 (io), AF15 I/O3 (io), AF16 I/O3 (io), AF17 I/O3 (io), AF18 I/O3 (io), AF19 I/O3 (io), AF20 I/O3 (io), AF23 I/O3 (io), C1 I/O0 (io), D1 I/O0 (io), D2 I/O0 (io), E1 I/O0 (io), E2 I/O0 (io), E3 I/O0 (io), F4 I/O0 (io), G1 I/O0 (io), G2 I/O0 (io), H1 I/O0 (io), L1 I/O0 (io), L2 I/O0 (io), L3 I/O0 (io), L4 I/O0 (io), M1 I/O0 (io), M2 I/O0 (io), M3 I/O0 (io), N3 I/O0 (io), N4 I/O1 (io), P1 I/O1 (io), P3 I/O1 (io), P4 I/O1 (io), R1 I/O1 (io), R2 I/O1 (io), V3 I/O1 (io), W1 I/O1 (io), W2 I/O1 (io), Y1 I/O1 (io), Y2 I/O1 (io), Y3 I/O1 (io), Y4 I/O1 (io)
part B pins: A3 I/O7 (io), A4 I/O7 (io), A5 I/O7 (io), A6 I/O7 (io), A7 I/O7 (io), A9 I/O7 (io), A10 I/O7 (io), A12 I/O7 (io), A13 I/O7 (io), A14 I/O6 (io), A15 I/O6 (io), A17 I/O6 (io), A18 I/O6 (io), A21 I/O6 (io), A23 I/O6 (io), A24 I/O6 (io), A25 I/O6 (io), AA23 I/O4 (io), AA24 I/O4 (io), AA26 I/O4 (io), AB23 I/O4 (io), AB24 I/O4 (io), AB25 I/O4 (io), AB26 I/O4 (io), AC24 I/O4 (io), AC25 I/O4 (io), AC26 I/O4 (io), B1 I/O7 (io), B5 I/O7 (io), B7 I/O7 (io), B8 I/O7 (io), B9 I/O7 (io), B11 I/O7 (io), B12 I/O7 (io), B13 I/O7 (io), B14 I/O6 (io), B15 I/O6 (io), B16 I/O6 (io), B17 I/O6/Lock (io), B18 I/O6 (io), B19 I/O6 (io), B21 I/O6 (io), B24 I/O6 (io), B25 I/O6 (io), B26 I/O6 (io), C4 I/O7 (io), C5 I/O7 (io), C7 I/O7 (io), C8 I/O7 (io), C9 I/O7 (io), C10 I/O7 (io), C11 I/O7 (io), C12 I/O7 (io), C13 I/O7 (io), C14 I/O6 (io), C16 I/O6 (io), C18 I/O6 (io), C19 I/O6 (io), C20 I/O6 (io), C21 I/O6 (io), C24 I/O6 (io), C26 I/O6 (io), D4 I/O7 (io), D11 I/O7 (io), D16 I/O6 (io), D24 I/O5 (io), E24 I/O5 (io), F24 I/O5 (io), F25 I/O5 (io), F26 I/O5 (io), G25 I/O5 (io), G26 I/O5 (io), H24 I/O5 (io), H25 I/O5 (io), H26 I/O5 (io), J25 I/O5 (io), J26 I/O5 (io), K24 I/O5 (io), N23 I/O5 (io), N24 I/O5 (io), N25 I/O5 (io), P24 I/O5 (io), P25 I/O5 (io), R24 I/O4 (io), R25 I/O4 (io), T23 I/O4 (io), T24 I/O4 (io), T26 I/O4 (io), U24 I/O4 (io), U25 I/O4 (io), Y26 I/O4 (io)
part C pins: A1 GND (power), A11 IO/VREF7 (io), A16 GND (power), A22 IO/VREF6 (io), A26 GND (power), AA3 IO/VREF1 (io), AA25 IO/VREF4 (io), AB1 VCCCNFG (power), AB2 Config_Done (out), AC1 DATA (in), AC2 Reconfig (in), AC8 VCCIO2 (power), AC9 VCCIO2 (power), AC10 VCCCNFG (power), AC12 VCCIO2 (power), AC13 VCCIO2 (power), AC14 VCCIO3 (power), AC15 VCCIO3 (power), AC18 VCCIO3 (power), AC19 VCCIO3 (power), AC23 IO/VREF4 (io), AD1 Reset (out), AD2 CCLK (out), AD3 IO/VREF2 (io), AD5 IO/VREF2 (io), AD10 IO/VREF2 (io), AD13 IO/VREF2 (io), AD18 IO/VREF3 (io), AD25 IO/VREF3 (io), AE1 CCE (out), AE2 MSEL (in), AE15 IO/VREF3 (io), AE20 IO/VREF3 (io), AF1 GND (power), AF11 GND (power), AF13 VCC (power), AF26 GND (power), B6 IO/VREF7 (io), B10 IO/VREF7 (io), B20 IO/VREF6 (io), C2 IO/VREF7 (io), C15 IO/VREF6 (io), C25 IO/VREF6 (io), D3 IO/VREF0 (io), D5 GCTL3 (in), D7 GCLK3 (in), D8 VCCIO7 (power), D9 VCCIO7 (power), D10 VCCIO7 (power), D12 VCCIO7 (power), D13 VCC (power), D14 VCCIO6 (power), D15 VCCIO6 (power), D17 VCCPLL (power), D18 VCCIO6 (power), D19 VCCIO6 (power), D20 GCLK2 (in), D22 GCTL2 (in), D25 TMS (in), D26 TCLK (in), E4 GCTL0 (in), E23 GCLK1 (in), E25 TDI (in), E26 TDO (out), G3 IO/VREF0 (io), G4 GCLK0 (in), G23 GCTL1 (in), G24 IO/VREF5 (io), H4 VCCIO0 (power), H23 VCCJTAG (power), J4 VCCIO0 (power), J23 VCCIO5 (power), K4 VCC (power), K23 VCCIO5 (power), L11 GND (power), L12 GND (power), L13 GND (power), L14 GND (power), L15 GND (power), L16 GND (power), L24 IO/VREF5 (io), M4 VCCIO0 (power), M11 GND (power), M12 GND (power), M13 GND (power), M14 GND (power), M15 GND (power), M16 GND (power), M23 VCCIO5 (power), N2 IO/VREF0 (io), N11 GND (power), N12 GND (power), N13 GND (power), N14 GND (power), N15 GND (power), N16 GND (power), N26 IO/VREF5 (io), P2 IO/VREF1 (io), P11 GND (power), P12 GND (power), P13 GND (power), P14 GND (power), P15 GND (power), P16 GND (power), P23 VCC (power), R4 VCCIO1 (power), R11 GND (power), R12 GND (power), R13 GND (power), R14 GND (power), R15 GND (power), R16 GND (power), R23 VCCIO4 (power), T11 GND (power), T12 GND (power), T13 GND (power), T14 GND (power), T15 GND (power), T16 GND (power), T25 IO/VREF4 (io), U4 VCCPRG (power), U23 VCCPRG (power), V4 VCCIO1 (power), V23 VCCIO4 (power), W3 IO/VREF1 (io), W4 VCCIO1 (power), W23 VCCIO4 (power)
part D pins: A2 NC, A8 NC, A19 NC, A20 NC, AC7 NC, AC17 NC, AD7 NC, AD8 NC, AD24 NC, AE6 NC, AE7 NC, AE21 NC, AE23 NC, AE24 NC, AF6 NC, AF7 NC, AF8 NC, AF9 NC, AF21 NC, AF22 NC, AF24 NC, AF25 NC, B2 NC, B3 NC, B4 NC, B22 NC, B23 NC, C3 NC, C6 NC, C17 NC, C22 NC, C23 NC, D6 NC, D21 NC, D23 NC, F1 NC, F2 NC, F3 NC, F23 NC, H2 NC, H3 NC, J1 NC, J2 NC, J3 NC, J24 NC, K1 NC, K2 NC, K3 NC, K25 NC, K26 NC, L23 NC, L25 NC, L26 NC, M24 NC, M25 NC, M26 NC, N1 NC, P26 NC, R3 NC, R26 NC, T1 NC, T2 NC, T3 NC, T4 NC, U1 NC, U2 NC, U3 NC, U26 NC, V1 NC, V2 NC, V24 NC, V25 NC, V26 NC, W24 NC, W25 NC, W26 NC, Y23 NC, Y24 NC, Y25 NC

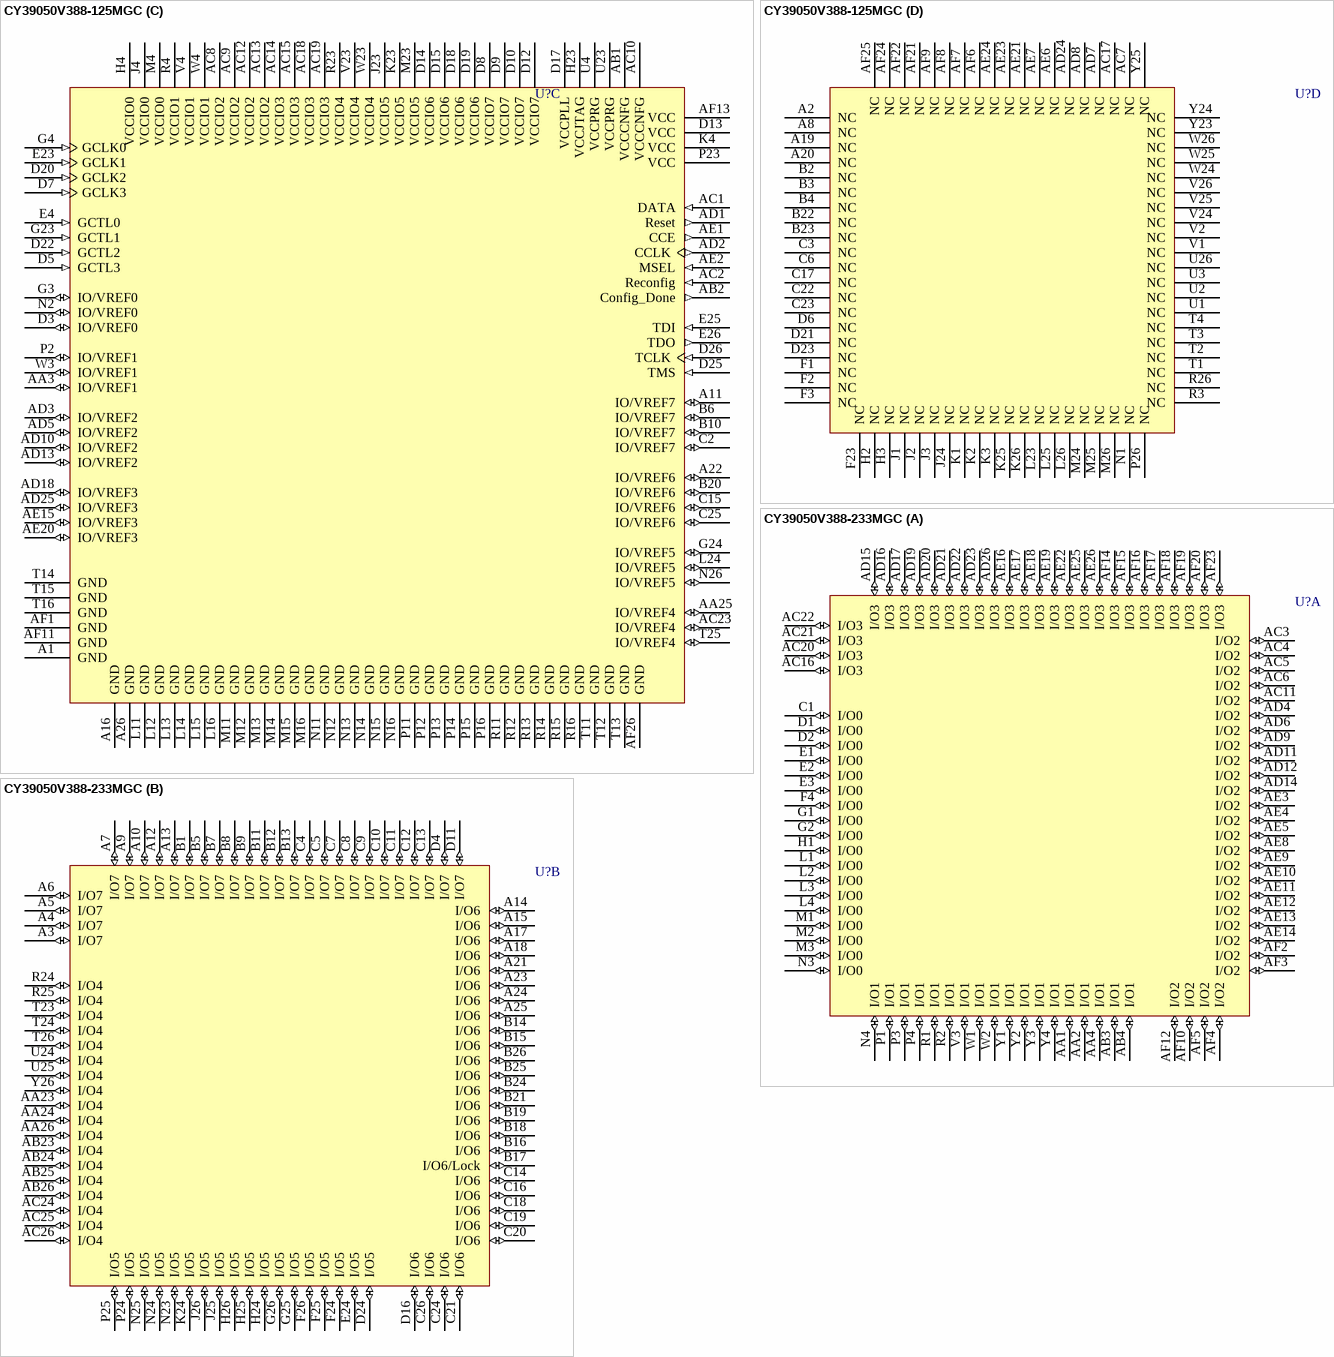
[diagram p18: symbols CY39050V388-125MGC to CY39050V388-233MGC]

## CY39050V388-125MGC
designator U?
Delta39K ISR CPLD, 3.3V/2.5V, 50K Gates, 125 MHz, 388-Ball BGA, Commercial Grade; ComponentAvailability: Obsolete; Published: 11-Dec-2002; LatestRevisionDate: 13-Apr-2006; LatestRevisionNote: IPC-7351 Footprint Added.; DatasheetVersion: revI, Mar-2005; PackageVersion: Mar-2005; PackageReference: MG388; Publisher: Altium Limited; PackageDescription: 388-Ball Ball Grid Array 1.27 mm Pitch; ComponentLink1Description: Manufacturer Link; ComponentLink1URL: http://www.cypress.com/; ComponentLink2Description: Datasheet; ComponentLink2URL: http://www.cypress.com/portal/server.pt/gateway/PTARGS_0_601270_1522_209_0_43/http%3B/sjapp20.mis.cypress.com%3B7001/publishedcontent/publish/design_resources/datasheets/contents/cy39030v_5.pdf
footprint MG388 (BGA, 388-Leads, Body 35x35mm, Pitch 1.27mm)
3D model CY39050V388-MG388 (388-Ball Ball Grid Array 1.27 mm Pitch)
part A pins: AA1 I/O1 (io), AA2 I/O1 (io), AA4 I/O1 (io), AB3 I/O1 (io), AB4 I/O1 (io), AC3 I/O2 (io), AC4 I/O2 (io), AC5 I/O2 (io), AC6 I/O2 (io), AC11 I/O2 (io), AC16 I/O3 (io), AC20 I/O3 (io), AC21 I/O3 (io), AC22 I/O3 (io), AD4 I/O2 (io), AD6 I/O2 (io), AD9 I/O2 (io), AD11 I/O2 (io), AD12 I/O2 (io), AD14 I/O2 (io), AD15 I/O3 (io), AD16 I/O3 (io), AD17 I/O3 (io), AD19 I/O3 (io), AD20 I/O3 (io), AD21 I/O3 (io), AD22 I/O3 (io), AD23 I/O3 (io), AD26 I/O3 (io), AE3 I/O2 (io), AE4 I/O2 (io), AE5 I/O2 (io), AE8 I/O2 (io), AE9 I/O2 (io), AE10 I/O2 (io), AE11 I/O2 (io), AE12 I/O2 (io), AE13 I/O2 (io), AE14 I/O2 (io), AE16 I/O3 (io), AE17 I/O3 (io), AE18 I/O3 (io), AE19 I/O3 (io), AE22 I/O3 (io), AE25 I/O3 (io), AE26 I/O3 (io), AF2 I/O2 (io), AF3 I/O2 (io), AF4 I/O2 (io), AF5 I/O2 (io), AF10 I/O2 (io), AF12 I/O2 (io), AF14 I/O3 (io), AF15 I/O3 (io), AF16 I/O3 (io), AF17 I/O3 (io), AF18 I/O3 (io), AF19 I/O3 (io), AF20 I/O3 (io), AF23 I/O3 (io), C1 I/O0 (io), D1 I/O0 (io), D2 I/O0 (io), E1 I/O0 (io), E2 I/O0 (io), E3 I/O0 (io), F4 I/O0 (io), G1 I/O0 (io), G2 I/O0 (io), H1 I/O0 (io), L1 I/O0 (io), L2 I/O0 (io), L3 I/O0 (io), L4 I/O0 (io), M1 I/O0 (io), M2 I/O0 (io), M3 I/O0 (io), N3 I/O0 (io), N4 I/O1 (io), P1 I/O1 (io), P3 I/O1 (io), P4 I/O1 (io), R1 I/O1 (io), R2 I/O1 (io), V3 I/O1 (io), W1 I/O1 (io), W2 I/O1 (io), Y1 I/O1 (io), Y2 I/O1 (io), Y3 I/O1 (io), Y4 I/O1 (io)
part B pins: A3 I/O7 (io), A4 I/O7 (io), A5 I/O7 (io), A6 I/O7 (io), A7 I/O7 (io), A9 I/O7 (io), A10 I/O7 (io), A12 I/O7 (io), A13 I/O7 (io), A14 I/O6 (io), A15 I/O6 (io), A17 I/O6 (io), A18 I/O6 (io), A21 I/O6 (io), A23 I/O6 (io), A24 I/O6 (io), A25 I/O6 (io), AA23 I/O4 (io), AA24 I/O4 (io), AA26 I/O4 (io), AB23 I/O4 (io), AB24 I/O4 (io), AB25 I/O4 (io), AB26 I/O4 (io), AC24 I/O4 (io), AC25 I/O4 (io), AC26 I/O4 (io), B1 I/O7 (io), B5 I/O7 (io), B7 I/O7 (io), B8 I/O7 (io), B9 I/O7 (io), B11 I/O7 (io), B12 I/O7 (io), B13 I/O7 (io), B14 I/O6 (io), B15 I/O6 (io), B16 I/O6 (io), B17 I/O6/Lock (io), B18 I/O6 (io), B19 I/O6 (io), B21 I/O6 (io), B24 I/O6 (io), B25 I/O6 (io), B26 I/O6 (io), C4 I/O7 (io), C5 I/O7 (io), C7 I/O7 (io), C8 I/O7 (io), C9 I/O7 (io), C10 I/O7 (io), C11 I/O7 (io), C12 I/O7 (io), C13 I/O7 (io), C14 I/O6 (io), C16 I/O6 (io), C18 I/O6 (io), C19 I/O6 (io), C20 I/O6 (io), C21 I/O6 (io), C24 I/O6 (io), C26 I/O6 (io), D4 I/O7 (io), D11 I/O7 (io), D16 I/O6 (io), D24 I/O5 (io), E24 I/O5 (io), F24 I/O5 (io), F25 I/O5 (io), F26 I/O5 (io), G25 I/O5 (io), G26 I/O5 (io), H24 I/O5 (io), H25 I/O5 (io), H26 I/O5 (io), J25 I/O5 (io), J26 I/O5 (io), K24 I/O5 (io), N23 I/O5 (io), N24 I/O5 (io), N25 I/O5 (io), P24 I/O5 (io), P25 I/O5 (io), R24 I/O4 (io), R25 I/O4 (io), T23 I/O4 (io), T24 I/O4 (io), T26 I/O4 (io), U24 I/O4 (io), U25 I/O4 (io), Y26 I/O4 (io)
part C pins: A1 GND (power), A11 IO/VREF7 (io), A16 GND (power), A22 IO/VREF6 (io), A26 GND (power), AA3 IO/VREF1 (io), AA25 IO/VREF4 (io), AB1 VCCCNFG (power), AB2 Config_Done (out), AC1 DATA (in), AC2 Reconfig (in), AC8 VCCIO2 (power), AC9 VCCIO2 (power), AC10 VCCCNFG (power), AC12 VCCIO2 (power), AC13 VCCIO2 (power), AC14 VCCIO3 (power), AC15 VCCIO3 (power), AC18 VCCIO3 (power), AC19 VCCIO3 (power), AC23 IO/VREF4 (io), AD1 Reset (out), AD2 CCLK (out), AD3 IO/VREF2 (io), AD5 IO/VREF2 (io), AD10 IO/VREF2 (io), AD13 IO/VREF2 (io), AD18 IO/VREF3 (io), AD25 IO/VREF3 (io), AE1 CCE (out), AE2 MSEL (in), AE15 IO/VREF3 (io), AE20 IO/VREF3 (io), AF1 GND (power), AF11 GND (power), AF13 VCC (power), AF26 GND (power), B6 IO/VREF7 (io), B10 IO/VREF7 (io), B20 IO/VREF6 (io), C2 IO/VREF7 (io), C15 IO/VREF6 (io), C25 IO/VREF6 (io), D3 IO/VREF0 (io), D5 GCTL3 (in), D7 GCLK3 (in), D8 VCCIO7 (power), D9 VCCIO7 (power), D10 VCCIO7 (power), D12 VCCIO7 (power), D13 VCC (power), D14 VCCIO6 (power), D15 VCCIO6 (power), D17 VCCPLL (power), D18 VCCIO6 (power), D19 VCCIO6 (power), D20 GCLK2 (in), D22 GCTL2 (in), D25 TMS (in), D26 TCLK (in), E4 GCTL0 (in), E23 GCLK1 (in), E25 TDI (in), E26 TDO (out), G3 IO/VREF0 (io), G4 GCLK0 (in), G23 GCTL1 (in), G24 IO/VREF5 (io), H4 VCCIO0 (power), H23 VCCJTAG (power), J4 VCCIO0 (power), J23 VCCIO5 (power), K4 VCC (power), K23 VCCIO5 (power), L11 GND (power), L12 GND (power), L13 GND (power), L14 GND (power), L15 GND (power), L16 GND (power), L24 IO/VREF5 (io), M4 VCCIO0 (power), M11 GND (power), M12 GND (power), M13 GND (power), M14 GND (power), M15 GND (power), M16 GND (power), M23 VCCIO5 (power), N2 IO/VREF0 (io), N11 GND (power), N12 GND (power), N13 GND (power), N14 GND (power), N15 GND (power), N16 GND (power), N26 IO/VREF5 (io), P2 IO/VREF1 (io), P11 GND (power), P12 GND (power), P13 GND (power), P14 GND (power), P15 GND (power), P16 GND (power), P23 VCC (power), R4 VCCIO1 (power), R11 GND (power), R12 GND (power), R13 GND (power), R14 GND (power), R15 GND (power), R16 GND (power), R23 VCCIO4 (power), T11 GND (power), T12 GND (power), T13 GND (power), T14 GND (power), T15 GND (power), T16 GND (power), T25 IO/VREF4 (io), U4 VCCPRG (power), U23 VCCPRG (power), V4 VCCIO1 (power), V23 VCCIO4 (power), W3 IO/VREF1 (io), W4 VCCIO1 (power), W23 VCCIO4 (power)
part D pins: A2 NC, A8 NC, A19 NC, A20 NC, AC7 NC, AC17 NC, AD7 NC, AD8 NC, AD24 NC, AE6 NC, AE7 NC, AE21 NC, AE23 NC, AE24 NC, AF6 NC, AF7 NC, AF8 NC, AF9 NC, AF21 NC, AF22 NC, AF24 NC, AF25 NC, B2 NC, B3 NC, B4 NC, B22 NC, B23 NC, C3 NC, C6 NC, C17 NC, C22 NC, C23 NC, D6 NC, D21 NC, D23 NC, F1 NC, F2 NC, F3 NC, F23 NC, H2 NC, H3 NC, J1 NC, J2 NC, J3 NC, J24 NC, K1 NC, K2 NC, K3 NC, K25 NC, K26 NC, L23 NC, L25 NC, L26 NC, M24 NC, M25 NC, M26 NC, N1 NC, P26 NC, R3 NC, R26 NC, T1 NC, T2 NC, T3 NC, T4 NC, U1 NC, U2 NC, U3 NC, U26 NC, V1 NC, V2 NC, V24 NC, V25 NC, V26 NC, W24 NC, W25 NC, W26 NC, Y23 NC, Y24 NC, Y25 NC

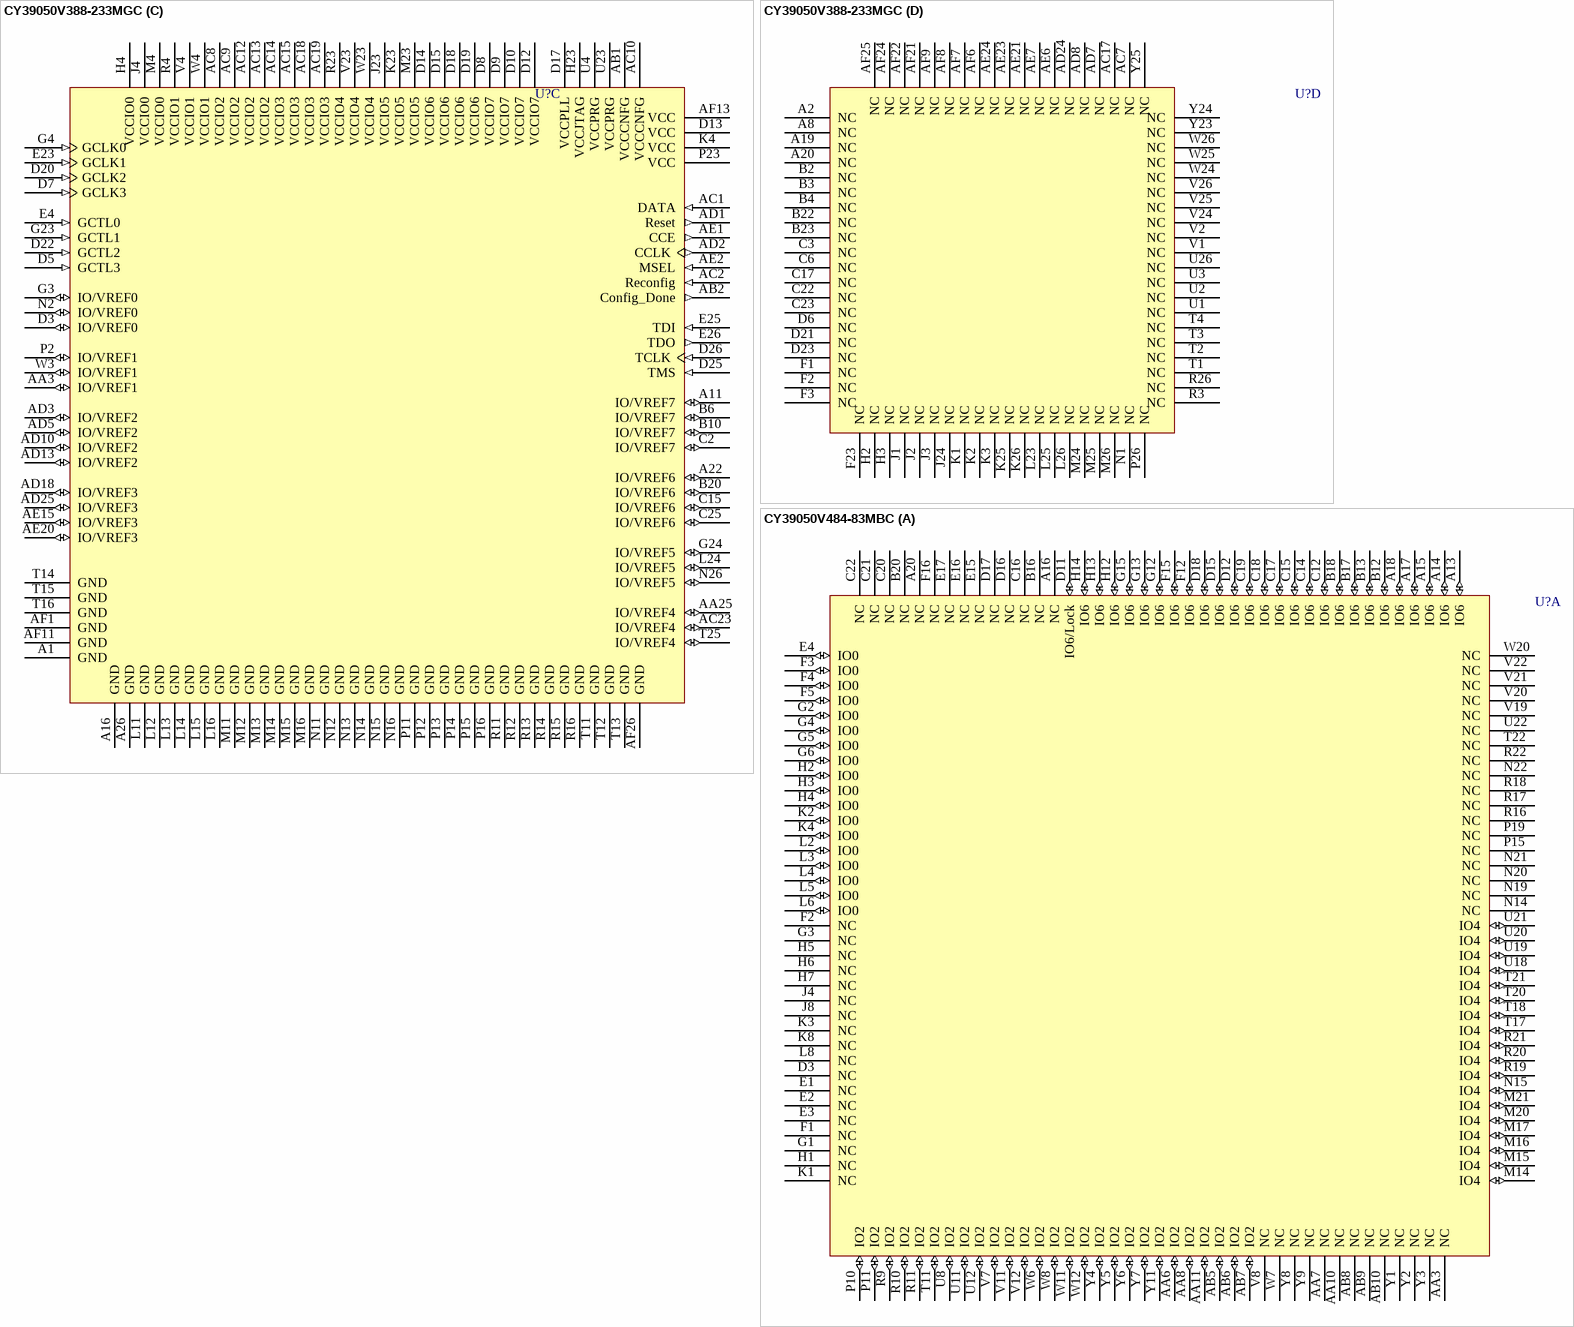
[diagram p19: symbols CY39050V388-233MGC to CY39050V484-83MBC]

## CY39050V388-233MGC
designator U?
Delta39K ISR CPLD, 3.3V/2.5V, 50K Gates, 233 MHz, 388-Ball BGA, Commercial Grade; ComponentAvailability: Obsolete; Published: 11-Dec-2002; LatestRevisionDate: 13-Apr-2006; LatestRevisionNote: IPC-7351 Footprint Added.; DatasheetVersion: revI, Mar-2005; PackageVersion: Mar-2005; PackageReference: MG388; Publisher: Altium Limited; PackageDescription: 388-Ball Ball Grid Array 1.27 mm Pitch; ComponentLink1Description: Manufacturer Link; ComponentLink1URL: http://www.cypress.com/; ComponentLink2Description: Datasheet; ComponentLink2URL: http://www.cypress.com/portal/server.pt/gateway/PTARGS_0_601270_1522_209_0_43/http%3B/sjapp20.mis.cypress.com%3B7001/publishedcontent/publish/design_resources/datasheets/contents/cy39030v_5.pdf
footprint MG388 (BGA, 388-Leads, Body 35x35mm, Pitch 1.27mm)
3D model CY39050V388-MG388 (388-Ball Ball Grid Array 1.27 mm Pitch)
part A pins: AA1 I/O1 (io), AA2 I/O1 (io), AA4 I/O1 (io), AB3 I/O1 (io), AB4 I/O1 (io), AC3 I/O2 (io), AC4 I/O2 (io), AC5 I/O2 (io), AC6 I/O2 (io), AC11 I/O2 (io), AC16 I/O3 (io), AC20 I/O3 (io), AC21 I/O3 (io), AC22 I/O3 (io), AD4 I/O2 (io), AD6 I/O2 (io), AD9 I/O2 (io), AD11 I/O2 (io), AD12 I/O2 (io), AD14 I/O2 (io), AD15 I/O3 (io), AD16 I/O3 (io), AD17 I/O3 (io), AD19 I/O3 (io), AD20 I/O3 (io), AD21 I/O3 (io), AD22 I/O3 (io), AD23 I/O3 (io), AD26 I/O3 (io), AE3 I/O2 (io), AE4 I/O2 (io), AE5 I/O2 (io), AE8 I/O2 (io), AE9 I/O2 (io), AE10 I/O2 (io), AE11 I/O2 (io), AE12 I/O2 (io), AE13 I/O2 (io), AE14 I/O2 (io), AE16 I/O3 (io), AE17 I/O3 (io), AE18 I/O3 (io), AE19 I/O3 (io), AE22 I/O3 (io), AE25 I/O3 (io), AE26 I/O3 (io), AF2 I/O2 (io), AF3 I/O2 (io), AF4 I/O2 (io), AF5 I/O2 (io), AF10 I/O2 (io), AF12 I/O2 (io), AF14 I/O3 (io), AF15 I/O3 (io), AF16 I/O3 (io), AF17 I/O3 (io), AF18 I/O3 (io), AF19 I/O3 (io), AF20 I/O3 (io), AF23 I/O3 (io), C1 I/O0 (io), D1 I/O0 (io), D2 I/O0 (io), E1 I/O0 (io), E2 I/O0 (io), E3 I/O0 (io), F4 I/O0 (io), G1 I/O0 (io), G2 I/O0 (io), H1 I/O0 (io), L1 I/O0 (io), L2 I/O0 (io), L3 I/O0 (io), L4 I/O0 (io), M1 I/O0 (io), M2 I/O0 (io), M3 I/O0 (io), N3 I/O0 (io), N4 I/O1 (io), P1 I/O1 (io), P3 I/O1 (io), P4 I/O1 (io), R1 I/O1 (io), R2 I/O1 (io), V3 I/O1 (io), W1 I/O1 (io), W2 I/O1 (io), Y1 I/O1 (io), Y2 I/O1 (io), Y3 I/O1 (io), Y4 I/O1 (io)
part B pins: A3 I/O7 (io), A4 I/O7 (io), A5 I/O7 (io), A6 I/O7 (io), A7 I/O7 (io), A9 I/O7 (io), A10 I/O7 (io), A12 I/O7 (io), A13 I/O7 (io), A14 I/O6 (io), A15 I/O6 (io), A17 I/O6 (io), A18 I/O6 (io), A21 I/O6 (io), A23 I/O6 (io), A24 I/O6 (io), A25 I/O6 (io), AA23 I/O4 (io), AA24 I/O4 (io), AA26 I/O4 (io), AB23 I/O4 (io), AB24 I/O4 (io), AB25 I/O4 (io), AB26 I/O4 (io), AC24 I/O4 (io), AC25 I/O4 (io), AC26 I/O4 (io), B1 I/O7 (io), B5 I/O7 (io), B7 I/O7 (io), B8 I/O7 (io), B9 I/O7 (io), B11 I/O7 (io), B12 I/O7 (io), B13 I/O7 (io), B14 I/O6 (io), B15 I/O6 (io), B16 I/O6 (io), B17 I/O6/Lock (io), B18 I/O6 (io), B19 I/O6 (io), B21 I/O6 (io), B24 I/O6 (io), B25 I/O6 (io), B26 I/O6 (io), C4 I/O7 (io), C5 I/O7 (io), C7 I/O7 (io), C8 I/O7 (io), C9 I/O7 (io), C10 I/O7 (io), C11 I/O7 (io), C12 I/O7 (io), C13 I/O7 (io), C14 I/O6 (io), C16 I/O6 (io), C18 I/O6 (io), C19 I/O6 (io), C20 I/O6 (io), C21 I/O6 (io), C24 I/O6 (io), C26 I/O6 (io), D4 I/O7 (io), D11 I/O7 (io), D16 I/O6 (io), D24 I/O5 (io), E24 I/O5 (io), F24 I/O5 (io), F25 I/O5 (io), F26 I/O5 (io), G25 I/O5 (io), G26 I/O5 (io), H24 I/O5 (io), H25 I/O5 (io), H26 I/O5 (io), J25 I/O5 (io), J26 I/O5 (io), K24 I/O5 (io), N23 I/O5 (io), N24 I/O5 (io), N25 I/O5 (io), P24 I/O5 (io), P25 I/O5 (io), R24 I/O4 (io), R25 I/O4 (io), T23 I/O4 (io), T24 I/O4 (io), T26 I/O4 (io), U24 I/O4 (io), U25 I/O4 (io), Y26 I/O4 (io)
part C pins: A1 GND (power), A11 IO/VREF7 (io), A16 GND (power), A22 IO/VREF6 (io), A26 GND (power), AA3 IO/VREF1 (io), AA25 IO/VREF4 (io), AB1 VCCCNFG (power), AB2 Config_Done (out), AC1 DATA (in), AC2 Reconfig (in), AC8 VCCIO2 (power), AC9 VCCIO2 (power), AC10 VCCCNFG (power), AC12 VCCIO2 (power), AC13 VCCIO2 (power), AC14 VCCIO3 (power), AC15 VCCIO3 (power), AC18 VCCIO3 (power), AC19 VCCIO3 (power), AC23 IO/VREF4 (io), AD1 Reset (out), AD2 CCLK (out), AD3 IO/VREF2 (io), AD5 IO/VREF2 (io), AD10 IO/VREF2 (io), AD13 IO/VREF2 (io), AD18 IO/VREF3 (io), AD25 IO/VREF3 (io), AE1 CCE (out), AE2 MSEL (in), AE15 IO/VREF3 (io), AE20 IO/VREF3 (io), AF1 GND (power), AF11 GND (power), AF13 VCC (power), AF26 GND (power), B6 IO/VREF7 (io), B10 IO/VREF7 (io), B20 IO/VREF6 (io), C2 IO/VREF7 (io), C15 IO/VREF6 (io), C25 IO/VREF6 (io), D3 IO/VREF0 (io), D5 GCTL3 (in), D7 GCLK3 (in), D8 VCCIO7 (power), D9 VCCIO7 (power), D10 VCCIO7 (power), D12 VCCIO7 (power), D13 VCC (power), D14 VCCIO6 (power), D15 VCCIO6 (power), D17 VCCPLL (power), D18 VCCIO6 (power), D19 VCCIO6 (power), D20 GCLK2 (in), D22 GCTL2 (in), D25 TMS (in), D26 TCLK (in), E4 GCTL0 (in), E23 GCLK1 (in), E25 TDI (in), E26 TDO (out), G3 IO/VREF0 (io), G4 GCLK0 (in), G23 GCTL1 (in), G24 IO/VREF5 (io), H4 VCCIO0 (power), H23 VCCJTAG (power), J4 VCCIO0 (power), J23 VCCIO5 (power), K4 VCC (power), K23 VCCIO5 (power), L11 GND (power), L12 GND (power), L13 GND (power), L14 GND (power), L15 GND (power), L16 GND (power), L24 IO/VREF5 (io), M4 VCCIO0 (power), M11 GND (power), M12 GND (power), M13 GND (power), M14 GND (power), M15 GND (power), M16 GND (power), M23 VCCIO5 (power), N2 IO/VREF0 (io), N11 GND (power), N12 GND (power), N13 GND (power), N14 GND (power), N15 GND (power), N16 GND (power), N26 IO/VREF5 (io), P2 IO/VREF1 (io), P11 GND (power), P12 GND (power), P13 GND (power), P14 GND (power), P15 GND (power), P16 GND (power), P23 VCC (power), R4 VCCIO1 (power), R11 GND (power), R12 GND (power), R13 GND (power), R14 GND (power), R15 GND (power), R16 GND (power), R23 VCCIO4 (power), T11 GND (power), T12 GND (power), T13 GND (power), T14 GND (power), T15 GND (power), T16 GND (power), T25 IO/VREF4 (io), U4 VCCPRG (power), U23 VCCPRG (power), V4 VCCIO1 (power), V23 VCCIO4 (power), W3 IO/VREF1 (io), W4 VCCIO1 (power), W23 VCCIO4 (power)
part D pins: A2 NC, A8 NC, A19 NC, A20 NC, AC7 NC, AC17 NC, AD7 NC, AD8 NC, AD24 NC, AE6 NC, AE7 NC, AE21 NC, AE23 NC, AE24 NC, AF6 NC, AF7 NC, AF8 NC, AF9 NC, AF21 NC, AF22 NC, AF24 NC, AF25 NC, B2 NC, B3 NC, B4 NC, B22 NC, B23 NC, C3 NC, C6 NC, C17 NC, C22 NC, C23 NC, D6 NC, D21 NC, D23 NC, F1 NC, F2 NC, F3 NC, F23 NC, H2 NC, H3 NC, J1 NC, J2 NC, J3 NC, J24 NC, K1 NC, K2 NC, K3 NC, K25 NC, K26 NC, L23 NC, L25 NC, L26 NC, M24 NC, M25 NC, M26 NC, N1 NC, P26 NC, R3 NC, R26 NC, T1 NC, T2 NC, T3 NC, T4 NC, U1 NC, U2 NC, U3 NC, U26 NC, V1 NC, V2 NC, V24 NC, V25 NC, V26 NC, W24 NC, W25 NC, W26 NC, Y23 NC, Y24 NC, Y25 NC

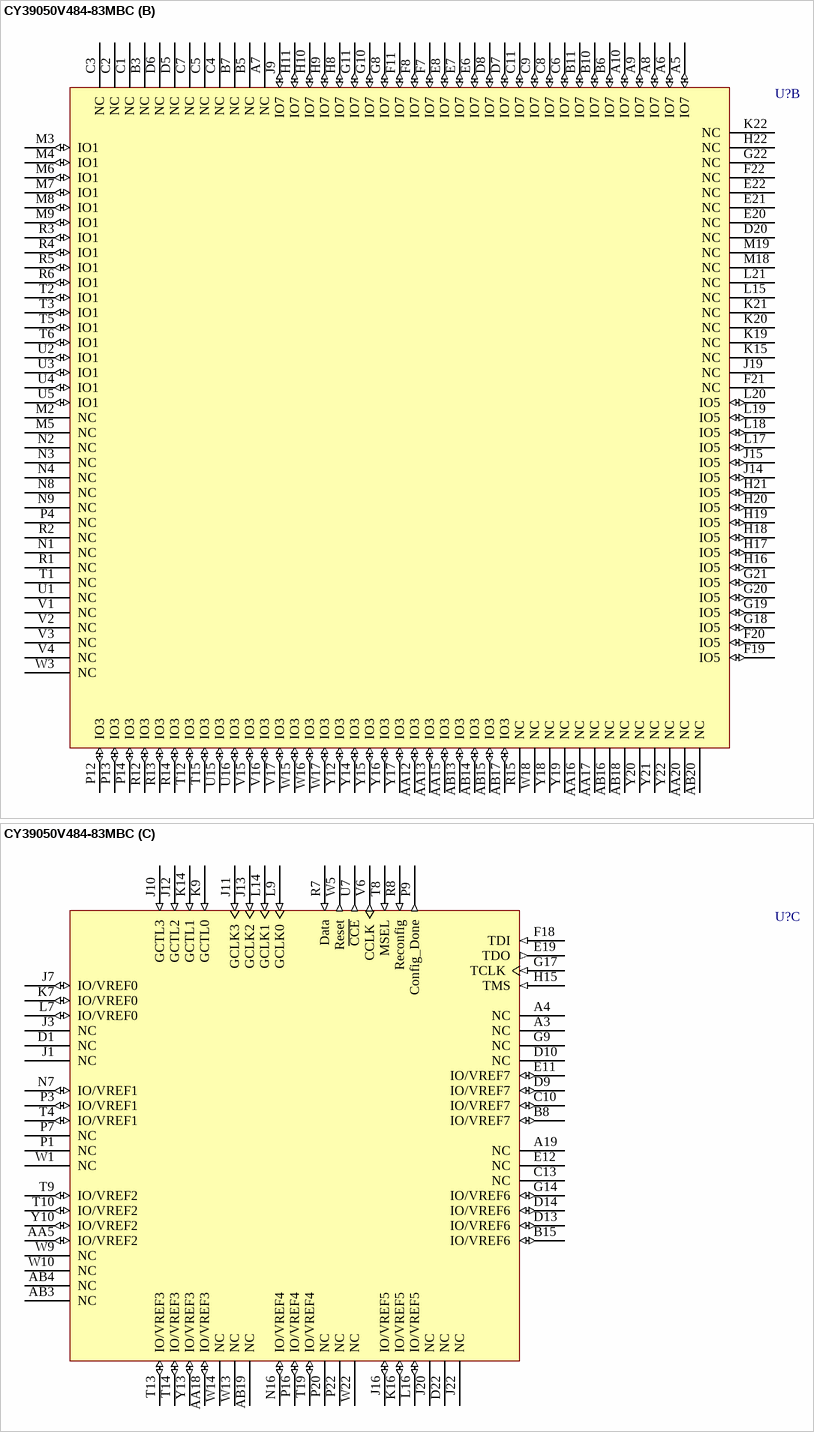
[diagram p20: symbol CY39050V484-83MBC]

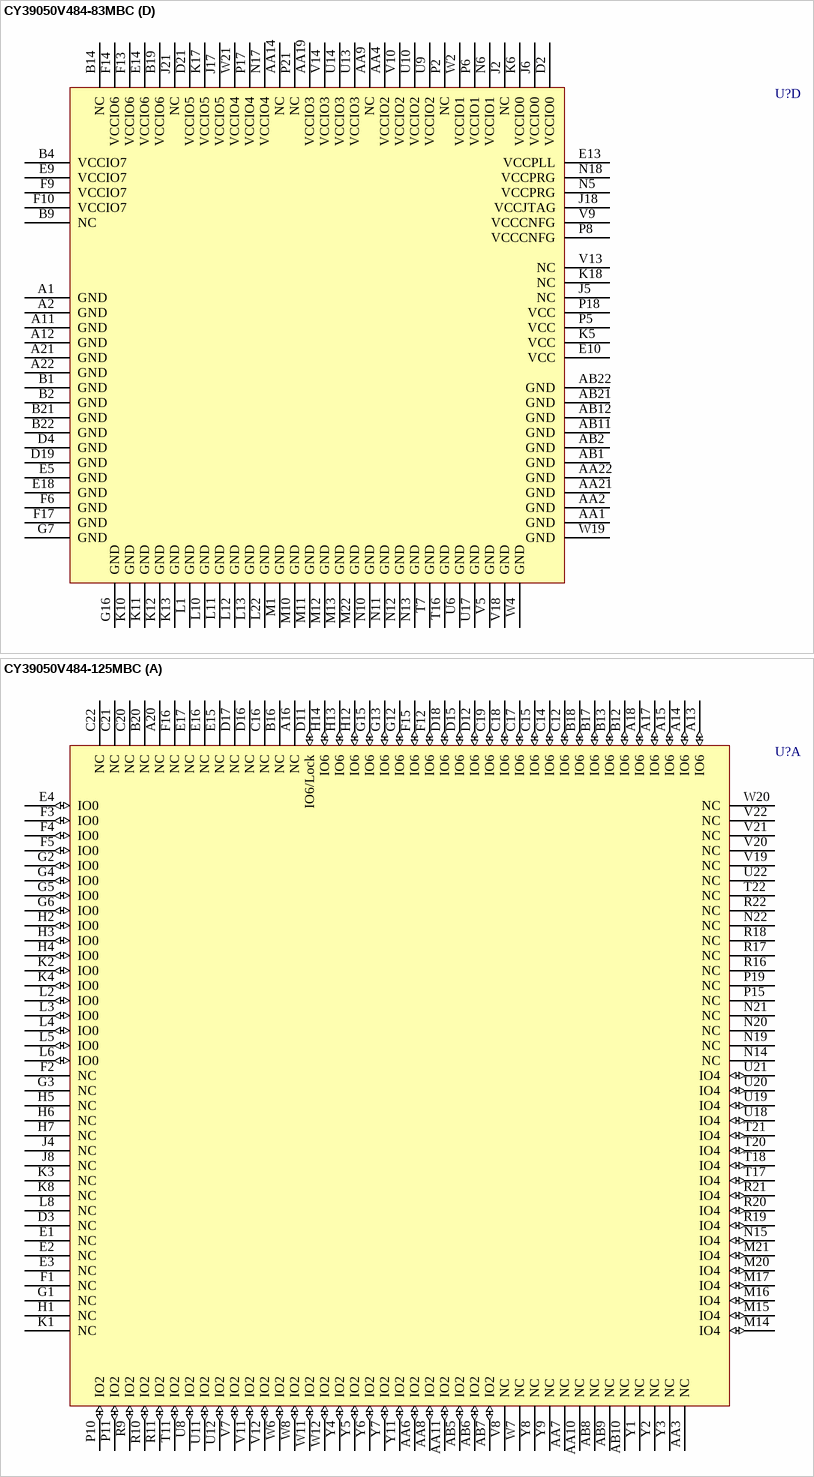
[diagram p21: symbols CY39050V484-83MBC to CY39050V484-125MBC]